# Altium integrated library Renesas Microcontroller R8C.IntLib: 628 symbols (part 21 of 33)
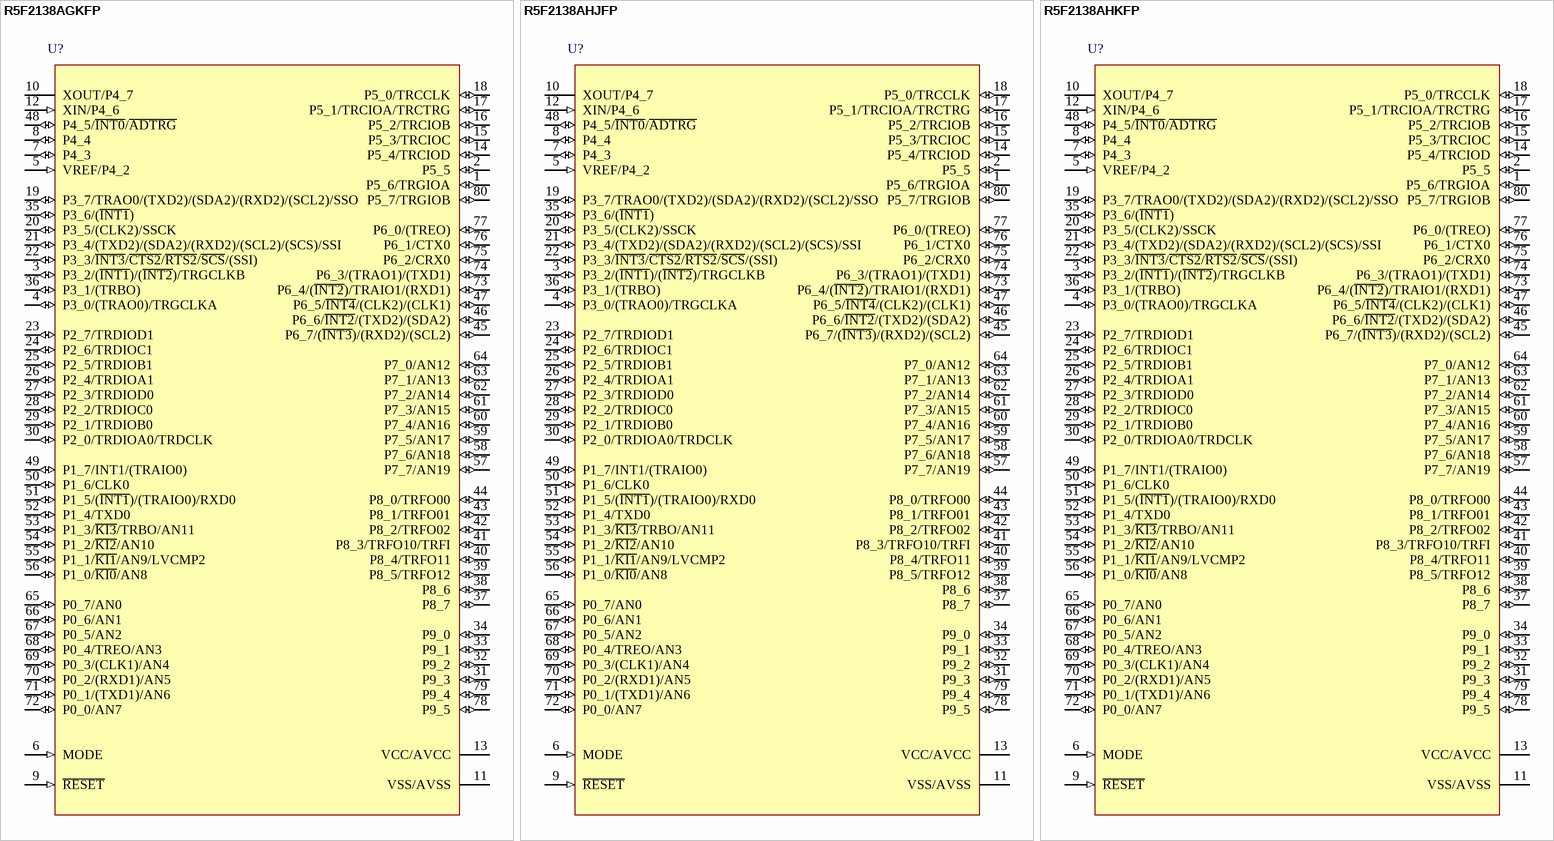
[diagram p136: symbols R5F2138AGKFP to R5F2138AHKFP]

## R5F2138AGKFP
designator U?
R8C/38G Group Single Chip 16-Bit CMOS MCU, 96K ROM + 1K x4 Data Flash, 8K RAM, K Version; Published: 30-Oct-2009; DatasheetVersion: Rev.0.10, Apr-2008; PackageVersion: Sep-2005; PackageReference: PLQP0080KB-A; Publisher: Altium Limited; PackageDescription: 80-Pin Plastic Low Profile QFP, 12 x 12 x 1.4 mm Body, 0.5 mm Pitch; Code_JEITA: P-LQFP80-12x12-0.50; Code_IPC: SQFP50P1400X1400-80; ComponentLink1Description: Manufacturer Link; ComponentLink1URL: http://sg.renesas.com/fmwk.jsp?cnt=r8c_family_landing.jsp&fp=/products/mpumcu/r8c_family/; ComponentLink2Description: Datasheet; ComponentLink2URL: http://documentation.renesas.com/eng/products/mpumcu/rej03b0248_r8c38ess.pdf; ComponentLink3Description: Packaging Specification; ComponentLink3URL: http://sg.renesas.com/media/products/common_info/package/pdf/ic/code/plqp0080kb_a.pdf
footprint PLQP0080KB-A_N (Shrink QFP, 80-Leads, Body 12x12mm, Pitch 0.5mm, IPC Medium Density)
footprint PLQP0080KB-A_L (Shrink QFP, 80-Leads, Body 12x12mm, Pitch 0.5mm, IPC High Density)
footprint PLQP0080KB-A_M (Shrink QFP, 80-Leads, Body 12x12mm, Pitch 0.5mm, IPC Low Density)
pins: 1 P5_6/TRGIOA (io), 2 P5_5 (io), 3 P3_2/(~{INT1})/(~{INT2})/TRGCLKB (io), 4 P3_0/(TRAO0)/TRGCLKA (io), 5 VREF/P4_2 (in), 6 MODE (in), 7 P4_3 (io), 8 P4_4 (io), 9 ~{RESET} (in), 10 XOUT/P4_7, 11 VSS/AVSS (power), 12 XIN/P4_6 (in), 13 VCC/AVCC (power), 14 P5_4/TRCIOD (io), 15 P5_3/TRCIOC (io), 16 P5_2/TRCIOB (io), 17 P5_1/TRCIOA/TRCTRG (io), 18 P5_0/TRCCLK (io), 19 P3_7/TRAO0/(TXD2)/(SDA2)/(RXD2)/(SCL2)/SSO (io), 20 P3_5/(CLK2)/SSCK (io), 21 P3_4/(TXD2)/(SDA2)/(RXD2)/(SCL2)/(SCS)/SSI (io), 22 P3_3/~{INT3}/~{CTS2}/~{RTS2}/~{SCS}/(SSI) (io), 23 P2_7/TRDIOD1 (io), 24 P2_6/TRDIOC1 (io), 25 P2_5/TRDIOB1 (io), 26 P2_4/TRDIOA1 (io), 27 P2_3/TRDIOD0 (io), 28 P2_2/TRDIOC0 (io), 29 P2_1/TRDIOB0 (io), 30 P2_0/TRDIOA0/TRDCLK (io), 31 P9_3 (io), 32 P9_2 (io), 33 P9_1 (io), 34 P9_0 (io), 35 P3_6/(~{INT1}) (io), 36 P3_1/(TRBO) (io), 37 P8_7 (io), 38 P8_6 (io), 39 P8_5/TRFO12 (io), 40 P8_4/TRFO11 (io), 41 P8_3/TRFO10/TRFI (io), 42 P8_2/TRFO02 (io), 43 P8_1/TRFO01 (io), 44 P8_0/TRFO00 (io), 45 P6_7/(~{INT3})/(RXD2)/(SCL2) (io), 46 P6_6/~{INT2}/(TXD2)/(SDA2) (io), 47 P6_5/~{INT4}/(CLK2)/(CLK1) (io), 48 P4_5/~{INT0}/~{ADTRG} (io), 49 P1_7/INT1/(TRAIO0) (io), 50 P1_6/CLK0 (io), 51 P1_5/(~{INT1})/(TRAIO0)/RXD0 (io), 52 P1_4/TXD0 (io), 53 P1_3/~{KI3}/TRBO/AN11 (io), 54 P1_2/~{KI2}/AN10 (io), 55 P1_1/~{KI1}/AN9/LVCMP2 (io), 56 P1_0/~{KI0}/AN8 (io), 57 P7_7/AN19 (io), 58 P7_6/AN18 (io), 59 P7_5/AN17 (io), 60 P7_4/AN16 (io), 61 P7_3/AN15 (io), 62 P7_2/AN14 (io), 63 P7_1/AN13 (io), 64 P7_0/AN12 (io), 65 P0_7/AN0 (io), 66 P0_6/AN1 (io), 67 P0_5/AN2 (io), 68 P0_4/TREO/AN3 (io), 69 P0_3/(CLK1)/AN4 (io), 70 P0_2/(RXD1)/AN5 (io), 71 P0_1/(TXD1)/AN6 (io), 72 P0_0/AN7 (io), 73 P6_4/(~{INT2})/TRAIO1/(RXD1) (io), 74 P6_3/(TRAO1)/(TXD1) (io), 75 P6_2/CRX0 (io), 76 P6_1/CTX0 (io), 77 P6_0/(TREO) (io), 78 P9_5 (io), 79 P9_4 (io), 80 P5_7/TRGIOB (io)

## R5F2138AHJFP
designator U?
R8C/38H Group Single Chip 16-Bit CMOS MCU, 96K ROM, 8K RAM, J Version; Published: 30-Oct-2009; DatasheetVersion: Rev.0.10, Apr-2008; PackageVersion: Sep-2005; PackageReference: PLQP0080KB-A; Publisher: Altium Limited; PackageDescription: 80-Pin Plastic Low Profile QFP, 12 x 12 x 1.4 mm Body, 0.5 mm Pitch; Code_JEITA: P-LQFP80-12x12-0.50; Code_IPC: SQFP50P1400X1400-80; ComponentLink1Description: Manufacturer Link; ComponentLink1URL: http://sg.renesas.com/fmwk.jsp?cnt=r8c_family_landing.jsp&fp=/products/mpumcu/r8c_family/; ComponentLink2Description: Datasheet; ComponentLink2URL: http://documentation.renesas.com/eng/products/mpumcu/rej03b0248_r8c38ess.pdf; ComponentLink3Description: Packaging Specification; ComponentLink3URL: http://sg.renesas.com/media/products/common_info/package/pdf/ic/code/plqp0080kb_a.pdf
footprint PLQP0080KB-A_N (Shrink QFP, 80-Leads, Body 12x12mm, Pitch 0.5mm, IPC Medium Density)
footprint PLQP0080KB-A_L (Shrink QFP, 80-Leads, Body 12x12mm, Pitch 0.5mm, IPC High Density)
footprint PLQP0080KB-A_M (Shrink QFP, 80-Leads, Body 12x12mm, Pitch 0.5mm, IPC Low Density)
pins: 1 P5_6/TRGIOA (io), 2 P5_5 (io), 3 P3_2/(~{INT1})/(~{INT2})/TRGCLKB (io), 4 P3_0/(TRAO0)/TRGCLKA (io), 5 VREF/P4_2 (in), 6 MODE (in), 7 P4_3 (io), 8 P4_4 (io), 9 ~{RESET} (in), 10 XOUT/P4_7, 11 VSS/AVSS (power), 12 XIN/P4_6 (in), 13 VCC/AVCC (power), 14 P5_4/TRCIOD (io), 15 P5_3/TRCIOC (io), 16 P5_2/TRCIOB (io), 17 P5_1/TRCIOA/TRCTRG (io), 18 P5_0/TRCCLK (io), 19 P3_7/TRAO0/(TXD2)/(SDA2)/(RXD2)/(SCL2)/SSO (io), 20 P3_5/(CLK2)/SSCK (io), 21 P3_4/(TXD2)/(SDA2)/(RXD2)/(SCL2)/(SCS)/SSI (io), 22 P3_3/~{INT3}/~{CTS2}/~{RTS2}/~{SCS}/(SSI) (io), 23 P2_7/TRDIOD1 (io), 24 P2_6/TRDIOC1 (io), 25 P2_5/TRDIOB1 (io), 26 P2_4/TRDIOA1 (io), 27 P2_3/TRDIOD0 (io), 28 P2_2/TRDIOC0 (io), 29 P2_1/TRDIOB0 (io), 30 P2_0/TRDIOA0/TRDCLK (io), 31 P9_3 (io), 32 P9_2 (io), 33 P9_1 (io), 34 P9_0 (io), 35 P3_6/(~{INT1}) (io), 36 P3_1/(TRBO) (io), 37 P8_7 (io), 38 P8_6 (io), 39 P8_5/TRFO12 (io), 40 P8_4/TRFO11 (io), 41 P8_3/TRFO10/TRFI (io), 42 P8_2/TRFO02 (io), 43 P8_1/TRFO01 (io), 44 P8_0/TRFO00 (io), 45 P6_7/(~{INT3})/(RXD2)/(SCL2) (io), 46 P6_6/~{INT2}/(TXD2)/(SDA2) (io), 47 P6_5/~{INT4}/(CLK2)/(CLK1) (io), 48 P4_5/~{INT0}/~{ADTRG} (io), 49 P1_7/INT1/(TRAIO0) (io), 50 P1_6/CLK0 (io), 51 P1_5/(~{INT1})/(TRAIO0)/RXD0 (io), 52 P1_4/TXD0 (io), 53 P1_3/~{KI3}/TRBO/AN11 (io), 54 P1_2/~{KI2}/AN10 (io), 55 P1_1/~{KI1}/AN9/LVCMP2 (io), 56 P1_0/~{KI0}/AN8 (io), 57 P7_7/AN19 (io), 58 P7_6/AN18 (io), 59 P7_5/AN17 (io), 60 P7_4/AN16 (io), 61 P7_3/AN15 (io), 62 P7_2/AN14 (io), 63 P7_1/AN13 (io), 64 P7_0/AN12 (io), 65 P0_7/AN0 (io), 66 P0_6/AN1 (io), 67 P0_5/AN2 (io), 68 P0_4/TREO/AN3 (io), 69 P0_3/(CLK1)/AN4 (io), 70 P0_2/(RXD1)/AN5 (io), 71 P0_1/(TXD1)/AN6 (io), 72 P0_0/AN7 (io), 73 P6_4/(~{INT2})/TRAIO1/(RXD1) (io), 74 P6_3/(TRAO1)/(TXD1) (io), 75 P6_2/CRX0 (io), 76 P6_1/CTX0 (io), 77 P6_0/(TREO) (io), 78 P9_5 (io), 79 P9_4 (io), 80 P5_7/TRGIOB (io)

## R5F2138AHKFP
designator U?
R8C/38H Group Single Chip 16-Bit CMOS MCU, 96K ROM, 8K RAM, K Version; Published: 30-Oct-2009; DatasheetVersion: Rev.0.10, Apr-2008; PackageVersion: Sep-2005; PackageReference: PLQP0080KB-A; Publisher: Altium Limited; PackageDescription: 80-Pin Plastic Low Profile QFP, 12 x 12 x 1.4 mm Body, 0.5 mm Pitch; Code_JEITA: P-LQFP80-12x12-0.50; Code_IPC: SQFP50P1400X1400-80; ComponentLink1Description: Manufacturer Link; ComponentLink1URL: http://sg.renesas.com/fmwk.jsp?cnt=r8c_family_landing.jsp&fp=/products/mpumcu/r8c_family/; ComponentLink2Description: Datasheet; ComponentLink2URL: http://documentation.renesas.com/eng/products/mpumcu/rej03b0248_r8c38ess.pdf; ComponentLink3Description: Packaging Specification; ComponentLink3URL: http://sg.renesas.com/media/products/common_info/package/pdf/ic/code/plqp0080kb_a.pdf
footprint PLQP0080KB-A_N (Shrink QFP, 80-Leads, Body 12x12mm, Pitch 0.5mm, IPC Medium Density)
footprint PLQP0080KB-A_L (Shrink QFP, 80-Leads, Body 12x12mm, Pitch 0.5mm, IPC High Density)
footprint PLQP0080KB-A_M (Shrink QFP, 80-Leads, Body 12x12mm, Pitch 0.5mm, IPC Low Density)
pins: 1 P5_6/TRGIOA (io), 2 P5_5 (io), 3 P3_2/(~{INT1})/(~{INT2})/TRGCLKB (io), 4 P3_0/(TRAO0)/TRGCLKA (io), 5 VREF/P4_2 (in), 6 MODE (in), 7 P4_3 (io), 8 P4_4 (io), 9 ~{RESET} (in), 10 XOUT/P4_7, 11 VSS/AVSS (power), 12 XIN/P4_6 (in), 13 VCC/AVCC (power), 14 P5_4/TRCIOD (io), 15 P5_3/TRCIOC (io), 16 P5_2/TRCIOB (io), 17 P5_1/TRCIOA/TRCTRG (io), 18 P5_0/TRCCLK (io), 19 P3_7/TRAO0/(TXD2)/(SDA2)/(RXD2)/(SCL2)/SSO (io), 20 P3_5/(CLK2)/SSCK (io), 21 P3_4/(TXD2)/(SDA2)/(RXD2)/(SCL2)/(SCS)/SSI (io), 22 P3_3/~{INT3}/~{CTS2}/~{RTS2}/~{SCS}/(SSI) (io), 23 P2_7/TRDIOD1 (io), 24 P2_6/TRDIOC1 (io), 25 P2_5/TRDIOB1 (io), 26 P2_4/TRDIOA1 (io), 27 P2_3/TRDIOD0 (io), 28 P2_2/TRDIOC0 (io), 29 P2_1/TRDIOB0 (io), 30 P2_0/TRDIOA0/TRDCLK (io), 31 P9_3 (io), 32 P9_2 (io), 33 P9_1 (io), 34 P9_0 (io), 35 P3_6/(~{INT1}) (io), 36 P3_1/(TRBO) (io), 37 P8_7 (io), 38 P8_6 (io), 39 P8_5/TRFO12 (io), 40 P8_4/TRFO11 (io), 41 P8_3/TRFO10/TRFI (io), 42 P8_2/TRFO02 (io), 43 P8_1/TRFO01 (io), 44 P8_0/TRFO00 (io), 45 P6_7/(~{INT3})/(RXD2)/(SCL2) (io), 46 P6_6/~{INT2}/(TXD2)/(SDA2) (io), 47 P6_5/~{INT4}/(CLK2)/(CLK1) (io), 48 P4_5/~{INT0}/~{ADTRG} (io), 49 P1_7/INT1/(TRAIO0) (io), 50 P1_6/CLK0 (io), 51 P1_5/(~{INT1})/(TRAIO0)/RXD0 (io), 52 P1_4/TXD0 (io), 53 P1_3/~{KI3}/TRBO/AN11 (io), 54 P1_2/~{KI2}/AN10 (io), 55 P1_1/~{KI1}/AN9/LVCMP2 (io), 56 P1_0/~{KI0}/AN8 (io), 57 P7_7/AN19 (io), 58 P7_6/AN18 (io), 59 P7_5/AN17 (io), 60 P7_4/AN16 (io), 61 P7_3/AN15 (io), 62 P7_2/AN14 (io), 63 P7_1/AN13 (io), 64 P7_0/AN12 (io), 65 P0_7/AN0 (io), 66 P0_6/AN1 (io), 67 P0_5/AN2 (io), 68 P0_4/TREO/AN3 (io), 69 P0_3/(CLK1)/AN4 (io), 70 P0_2/(RXD1)/AN5 (io), 71 P0_1/(TXD1)/AN6 (io), 72 P0_0/AN7 (io), 73 P6_4/(~{INT2})/TRAIO1/(RXD1) (io), 74 P6_3/(TRAO1)/(TXD1) (io), 75 P6_2/CRX0 (io), 76 P6_1/CTX0 (io), 77 P6_0/(TREO) (io), 78 P9_5 (io), 79 P9_4 (io), 80 P5_7/TRGIOB (io)

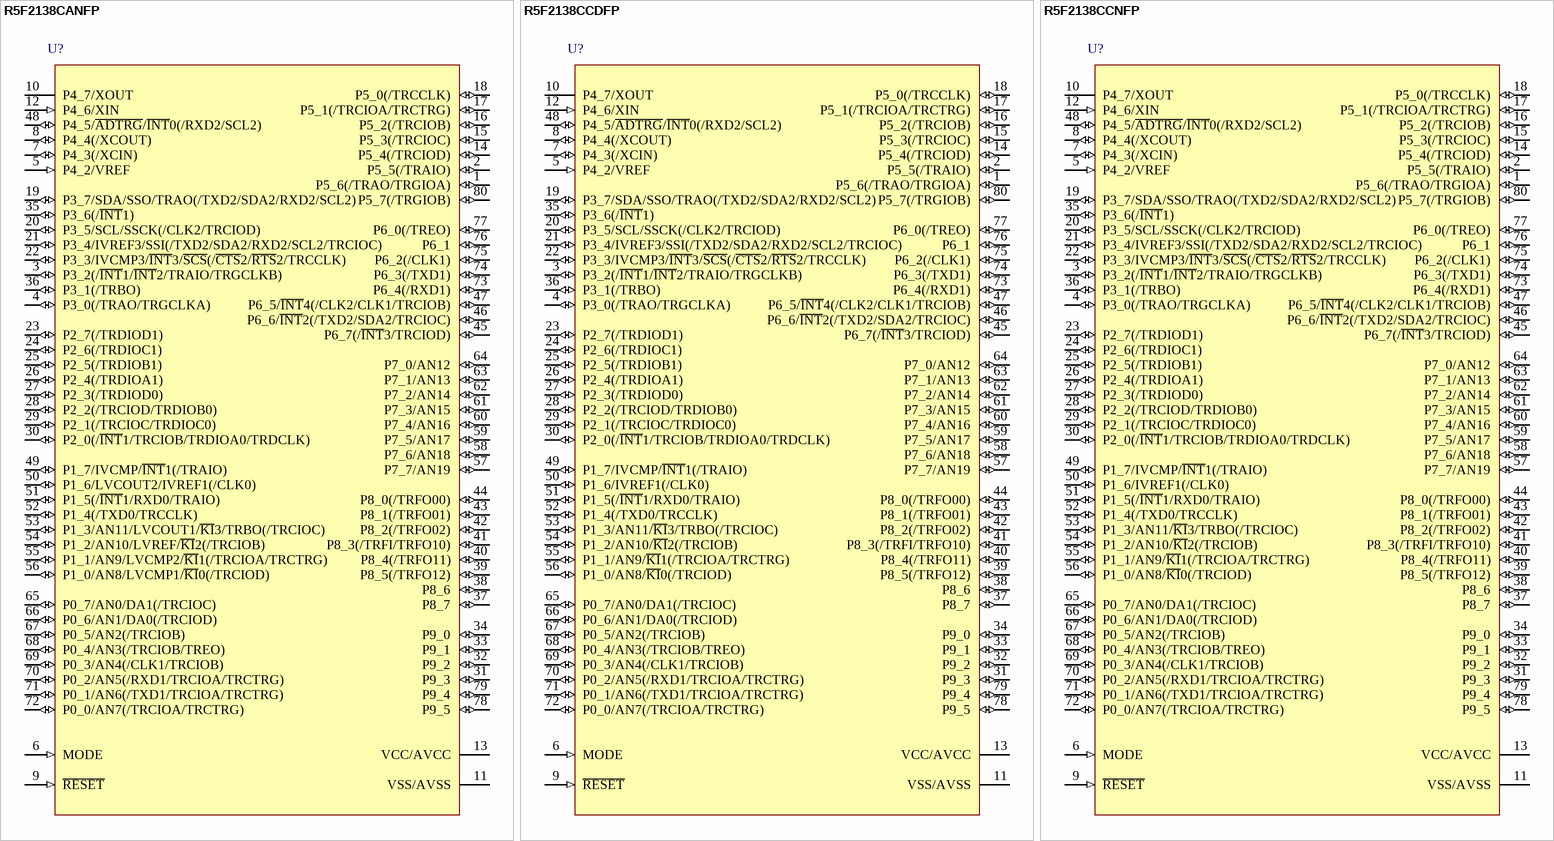
[diagram p73: symbols R5F2138CANFP to R5F2138CCNFP]

## R5F2138CANFP
designator U?
R8C/38A Group Single Chip 16-Bit CMOS MCU, 128K + 4K ROM, 10K RAM, N Version; Published: 17-Feb-2010; DatasheetVersion: Rev.1.10, Sep-2009; PackageVersion: Sep-2005; PackageReference: PLQP0080KB-A; Publisher: Altium Limited; PackageDescription: 80-Pin Plastic Low Profile QFP, 12 x 12 x 1.4 mm Body, 0.5 mm Pitch; Code_JEITA: P-LQFP80-12x12-0.50; Code_IPC: SQFP50P1400X1400-80; ComponentLink1Description: Manufacturer Link; ComponentLink1URL: http://sg.renesas.com/fmwk.jsp?cnt=r8c_family_landing.jsp&fp=/products/mpumcu/r8c_family/; ComponentLink2Description: Datasheet; ComponentLink2URL: http://documentation.renesas.com/eng/products/mpumcu/rej03b0274_r8c38ads.pdf; ComponentLink3Description: Packaging Specification; ComponentLink3URL: http://sg.renesas.com/media/products/common_info/package/pdf/ic/code/plqp0080kb_a.pdf
footprint PLQP0080KB-A_N (Shrink QFP, 80-Leads, Body 12x12mm, Pitch 0.5mm, IPC Medium Density)
footprint PLQP0080KB-A_L (Shrink QFP, 80-Leads, Body 12x12mm, Pitch 0.5mm, IPC High Density)
footprint PLQP0080KB-A_M (Shrink QFP, 80-Leads, Body 12x12mm, Pitch 0.5mm, IPC Low Density)
pins: 1 P5_6(/TRAO/TRGIOA) (io), 2 P5_5(/TRAIO) (io), 3 P3_2(/~{INT}1/~{INT}2/TRAIO/TRGCLKB) (io), 4 P3_0(/TRAO/TRGCLKA) (io), 5 P4_2/VREF (in), 6 MODE (in), 7 P4_3(/XCIN) (io), 8 P4_4(/XCOUT) (io), 9 ~{RESET} (in), 10 P4_7/XOUT, 11 VSS/AVSS (power), 12 P4_6/XIN (in), 13 VCC/AVCC (power), 14 P5_4(/TRCIOD) (io), 15 P5_3(/TRCIOC) (io), 16 P5_2(/TRCIOB) (io), 17 P5_1(/TRCIOA/TRCTRG) (io), 18 P5_0(/TRCCLK) (io), 19 P3_7/SDA/SSO/TRAO(/TXD2/SDA2/RXD2/SCL2) (io), 20 P3_5/SCL/SSCK(/CLK2/TRCIOD) (io), 21 P3_4/IVREF3/SSI(/TXD2/SDA2/RXD2/SCL2/TRCIOC) (io), 22 P3_3/IVCMP3/~{INT}3/~{SCS}(/~{CTS}2/~{RTS}2/TRCCLK) (io), 23 P2_7(/TRDIOD1) (io), 24 P2_6(/TRDIOC1) (io), 25 P2_5(/TRDIOB1) (io), 26 P2_4(/TRDIOA1) (io), 27 P2_3(/TRDIOD0) (io), 28 P2_2(/TRCIOD/TRDIOB0) (io), 29 P2_1(/TRCIOC/TRDIOC0) (io), 30 P2_0(/~{INT}1/TRCIOB/TRDIOA0/TRDCLK) (io), 31 P9_3 (io), 32 P9_2 (io), 33 P9_1 (io), 34 P9_0 (io), 35 P3_6(/~{INT}1) (io), 36 P3_1(/TRBO) (io), 37 P8_7 (io), 38 P8_6 (io), 39 P8_5(/TRFO12) (io), 40 P8_4(/TRFO11) (io), 41 P8_3(/TRFI/TRFO10) (io), 42 P8_2(/TRFO02) (io), 43 P8_1(/TRFO01) (io), 44 P8_0(/TRFO00) (io), 45 P6_7(/~{INT}3/TRCIOD) (io), 46 P6_6/~{INT}2(/TXD2/SDA2/TRCIOC) (io), 47 P6_5/~{INT}4(/CLK2/CLK1/TRCIOB) (io), 48 P4_5/~{ADTRG}/~{INT}0(/RXD2/SCL2) (io), 49 P1_7/IVCMP/~{INT}1(/TRAIO) (io), 50 P1_6/LVCOUT2/IVREF1(/CLK0) (io), 51 P1_5(/~{INT}1/RXD0/TRAIO) (io), 52 P1_4(/TXD0/TRCCLK) (io), 53 P1_3/AN11/LVCOUT1/~{KI}3/TRBO(/TRCIOC) (io), 54 P1_2/AN10/LVREF/~{KI}2(/TRCIOB) (io), 55 P1_1/AN9/LVCMP2/~{KI}1(/TRCIOA/TRCTRG) (io), 56 P1_0/AN8/LVCMP1/~{KI}0(/TRCIOD) (io), 57 P7_7/AN19 (io), 58 P7_6/AN18 (io), 59 P7_5/AN17 (io), 60 P7_4/AN16 (io), 61 P7_3/AN15 (io), 62 P7_2/AN14 (io), 63 P7_1/AN13 (io), 64 P7_0/AN12 (io), 65 P0_7/AN0/DA1(/TRCIOC) (io), 66 P0_6/AN1/DA0(/TRCIOD) (io), 67 P0_5/AN2(/TRCIOB) (io), 68 P0_4/AN3(/TRCIOB/TREO) (io), 69 P0_3/AN4(/CLK1/TRCIOB) (io), 70 P0_2/AN5(/RXD1/TRCIOA/TRCTRG) (io), 71 P0_1/AN6(/TXD1/TRCIOA/TRCTRG) (io), 72 P0_0/AN7(/TRCIOA/TRCTRG) (io), 73 P6_4(/RXD1) (io), 74 P6_3(/TXD1) (io), 75 P6_2(/CLK1) (io), 76 P6_1 (io), 77 P6_0(/TREO) (io), 78 P9_5 (io), 79 P9_4 (io), 80 P5_7(/TRGIOB) (io)

## R5F2138CCDFP
designator U?
R8C/38C Group Single Chip 16-Bit CMOS MCU, 128K + 4K ROM, 10K RAM, D Version; Published: 17-Feb-2010; DatasheetVersion: Rev.0.10, Nov-2009; PackageVersion: Sep-2005; PackageReference: PLQP0080KB-A; Publisher: Altium Limited; PackageDescription: 80-Pin Plastic Low Profile QFP, 12 x 12 x 1.4 mm Body, 0.5 mm Pitch; Code_JEITA: P-LQFP80-12x12-0.50; Code_IPC: SQFP50P1400X1400-80; ComponentLink1Description: Manufacturer Link; ComponentLink1URL: http://sg.renesas.com/fmwk.jsp?cnt=r8c_family_landing.jsp&fp=/products/mpumcu/r8c_family/; ComponentLink2Description: Datasheet; ComponentLink2URL: http://documentation.renesas.com/eng/products/mpumcu/rej09b0584_r8c38chm.pdf; ComponentLink3Description: Packaging Specification; ComponentLink3URL: http://sg.renesas.com/media/products/common_info/package/pdf/ic/code/plqp0080kb_a.pdf
footprint PLQP0080KB-A_N (Shrink QFP, 80-Leads, Body 12x12mm, Pitch 0.5mm, IPC Medium Density)
footprint PLQP0080KB-A_L (Shrink QFP, 80-Leads, Body 12x12mm, Pitch 0.5mm, IPC High Density)
footprint PLQP0080KB-A_M (Shrink QFP, 80-Leads, Body 12x12mm, Pitch 0.5mm, IPC Low Density)
pins: 1 P5_6(/TRAO/TRGIOA) (io), 2 P5_5(/TRAIO) (io), 3 P3_2(/~{INT}1/~{INT}2/TRAIO/TRGCLKB) (io), 4 P3_0(/TRAO/TRGCLKA) (io), 5 P4_2/VREF (in), 6 MODE (in), 7 P4_3(/XCIN) (io), 8 P4_4(/XCOUT) (io), 9 ~{RESET} (in), 10 P4_7/XOUT, 11 VSS/AVSS (power), 12 P4_6/XIN (in), 13 VCC/AVCC (power), 14 P5_4(/TRCIOD) (io), 15 P5_3(/TRCIOC) (io), 16 P5_2(/TRCIOB) (io), 17 P5_1(/TRCIOA/TRCTRG) (io), 18 P5_0(/TRCCLK) (io), 19 P3_7/SDA/SSO/TRAO(/TXD2/SDA2/RXD2/SCL2) (io), 20 P3_5/SCL/SSCK(/CLK2/TRCIOD) (io), 21 P3_4/IVREF3/SSI(/TXD2/SDA2/RXD2/SCL2/TRCIOC) (io), 22 P3_3/IVCMP3/~{INT}3/~{SCS}(/~{CTS}2/~{RTS}2/TRCCLK) (io), 23 P2_7(/TRDIOD1) (io), 24 P2_6(/TRDIOC1) (io), 25 P2_5(/TRDIOB1) (io), 26 P2_4(/TRDIOA1) (io), 27 P2_3(/TRDIOD0) (io), 28 P2_2(/TRCIOD/TRDIOB0) (io), 29 P2_1(/TRCIOC/TRDIOC0) (io), 30 P2_0(/~{INT}1/TRCIOB/TRDIOA0/TRDCLK) (io), 31 P9_3 (io), 32 P9_2 (io), 33 P9_1 (io), 34 P9_0 (io), 35 P3_6(/~{INT}1) (io), 36 P3_1(/TRBO) (io), 37 P8_7 (io), 38 P8_6 (io), 39 P8_5(/TRFO12) (io), 40 P8_4(/TRFO11) (io), 41 P8_3(/TRFI/TRFO10) (io), 42 P8_2(/TRFO02) (io), 43 P8_1(/TRFO01) (io), 44 P8_0(/TRFO00) (io), 45 P6_7(/~{INT}3/TRCIOD) (io), 46 P6_6/~{INT}2(/TXD2/SDA2/TRCIOC) (io), 47 P6_5/~{INT}4(/CLK2/CLK1/TRCIOB) (io), 48 P4_5/~{ADTRG}/~{INT}0(/RXD2/SCL2) (io), 49 P1_7/IVCMP/~{INT}1(/TRAIO) (io), 50 P1_6/IVREF1(/CLK0) (io), 51 P1_5(/~{INT}1/RXD0/TRAIO) (io), 52 P1_4(/TXD0/TRCCLK) (io), 53 P1_3/AN11/~{KI}3/TRBO(/TRCIOC) (io), 54 P1_2/AN10/~{KI}2(/TRCIOB) (io), 55 P1_1/AN9/~{KI}1(/TRCIOA/TRCTRG) (io), 56 P1_0/AN8/~{KI}0(/TRCIOD) (io), 57 P7_7/AN19 (io), 58 P7_6/AN18 (io), 59 P7_5/AN17 (io), 60 P7_4/AN16 (io), 61 P7_3/AN15 (io), 62 P7_2/AN14 (io), 63 P7_1/AN13 (io), 64 P7_0/AN12 (io), 65 P0_7/AN0/DA1(/TRCIOC) (io), 66 P0_6/AN1/DA0(/TRCIOD) (io), 67 P0_5/AN2(/TRCIOB) (io), 68 P0_4/AN3(/TRCIOB/TREO) (io), 69 P0_3/AN4(/CLK1/TRCIOB) (io), 70 P0_2/AN5(/RXD1/TRCIOA/TRCTRG) (io), 71 P0_1/AN6(/TXD1/TRCIOA/TRCTRG) (io), 72 P0_0/AN7(/TRCIOA/TRCTRG) (io), 73 P6_4(/RXD1) (io), 74 P6_3(/TXD1) (io), 75 P6_2(/CLK1) (io), 76 P6_1 (io), 77 P6_0(/TREO) (io), 78 P9_5 (io), 79 P9_4 (io), 80 P5_7(/TRGIOB) (io)

## R5F2138CCNFP
designator U?
R8C/38C Group Single Chip 16-Bit CMOS MCU, 128K + 4K ROM, 10K RAM, N Version; Published: 17-Feb-2010; DatasheetVersion: Rev.0.10, Nov-2009; PackageVersion: Sep-2005; PackageReference: PLQP0080KB-A; Publisher: Altium Limited; PackageDescription: 80-Pin Plastic Low Profile QFP, 12 x 12 x 1.4 mm Body, 0.5 mm Pitch; Code_JEITA: P-LQFP80-12x12-0.50; Code_IPC: SQFP50P1400X1400-80; ComponentLink1Description: Manufacturer Link; ComponentLink1URL: http://sg.renesas.com/fmwk.jsp?cnt=r8c_family_landing.jsp&fp=/products/mpumcu/r8c_family/; ComponentLink2Description: Datasheet; ComponentLink2URL: http://documentation.renesas.com/eng/products/mpumcu/rej09b0584_r8c38chm.pdf; ComponentLink3Description: Packaging Specification; ComponentLink3URL: http://sg.renesas.com/media/products/common_info/package/pdf/ic/code/plqp0080kb_a.pdf
footprint PLQP0080KB-A_N (Shrink QFP, 80-Leads, Body 12x12mm, Pitch 0.5mm, IPC Medium Density)
footprint PLQP0080KB-A_L (Shrink QFP, 80-Leads, Body 12x12mm, Pitch 0.5mm, IPC High Density)
footprint PLQP0080KB-A_M (Shrink QFP, 80-Leads, Body 12x12mm, Pitch 0.5mm, IPC Low Density)
pins: 1 P5_6(/TRAO/TRGIOA) (io), 2 P5_5(/TRAIO) (io), 3 P3_2(/~{INT}1/~{INT}2/TRAIO/TRGCLKB) (io), 4 P3_0(/TRAO/TRGCLKA) (io), 5 P4_2/VREF (in), 6 MODE (in), 7 P4_3(/XCIN) (io), 8 P4_4(/XCOUT) (io), 9 ~{RESET} (in), 10 P4_7/XOUT, 11 VSS/AVSS (power), 12 P4_6/XIN (in), 13 VCC/AVCC (power), 14 P5_4(/TRCIOD) (io), 15 P5_3(/TRCIOC) (io), 16 P5_2(/TRCIOB) (io), 17 P5_1(/TRCIOA/TRCTRG) (io), 18 P5_0(/TRCCLK) (io), 19 P3_7/SDA/SSO/TRAO(/TXD2/SDA2/RXD2/SCL2) (io), 20 P3_5/SCL/SSCK(/CLK2/TRCIOD) (io), 21 P3_4/IVREF3/SSI(/TXD2/SDA2/RXD2/SCL2/TRCIOC) (io), 22 P3_3/IVCMP3/~{INT}3/~{SCS}(/~{CTS}2/~{RTS}2/TRCCLK) (io), 23 P2_7(/TRDIOD1) (io), 24 P2_6(/TRDIOC1) (io), 25 P2_5(/TRDIOB1) (io), 26 P2_4(/TRDIOA1) (io), 27 P2_3(/TRDIOD0) (io), 28 P2_2(/TRCIOD/TRDIOB0) (io), 29 P2_1(/TRCIOC/TRDIOC0) (io), 30 P2_0(/~{INT}1/TRCIOB/TRDIOA0/TRDCLK) (io), 31 P9_3 (io), 32 P9_2 (io), 33 P9_1 (io), 34 P9_0 (io), 35 P3_6(/~{INT}1) (io), 36 P3_1(/TRBO) (io), 37 P8_7 (io), 38 P8_6 (io), 39 P8_5(/TRFO12) (io), 40 P8_4(/TRFO11) (io), 41 P8_3(/TRFI/TRFO10) (io), 42 P8_2(/TRFO02) (io), 43 P8_1(/TRFO01) (io), 44 P8_0(/TRFO00) (io), 45 P6_7(/~{INT}3/TRCIOD) (io), 46 P6_6/~{INT}2(/TXD2/SDA2/TRCIOC) (io), 47 P6_5/~{INT}4(/CLK2/CLK1/TRCIOB) (io), 48 P4_5/~{ADTRG}/~{INT}0(/RXD2/SCL2) (io), 49 P1_7/IVCMP/~{INT}1(/TRAIO) (io), 50 P1_6/IVREF1(/CLK0) (io), 51 P1_5(/~{INT}1/RXD0/TRAIO) (io), 52 P1_4(/TXD0/TRCCLK) (io), 53 P1_3/AN11/~{KI}3/TRBO(/TRCIOC) (io), 54 P1_2/AN10/~{KI}2(/TRCIOB) (io), 55 P1_1/AN9/~{KI}1(/TRCIOA/TRCTRG) (io), 56 P1_0/AN8/~{KI}0(/TRCIOD) (io), 57 P7_7/AN19 (io), 58 P7_6/AN18 (io), 59 P7_5/AN17 (io), 60 P7_4/AN16 (io), 61 P7_3/AN15 (io), 62 P7_2/AN14 (io), 63 P7_1/AN13 (io), 64 P7_0/AN12 (io), 65 P0_7/AN0/DA1(/TRCIOC) (io), 66 P0_6/AN1/DA0(/TRCIOD) (io), 67 P0_5/AN2(/TRCIOB) (io), 68 P0_4/AN3(/TRCIOB/TREO) (io), 69 P0_3/AN4(/CLK1/TRCIOB) (io), 70 P0_2/AN5(/RXD1/TRCIOA/TRCTRG) (io), 71 P0_1/AN6(/TXD1/TRCIOA/TRCTRG) (io), 72 P0_0/AN7(/TRCIOA/TRCTRG) (io), 73 P6_4(/RXD1) (io), 74 P6_3(/TXD1) (io), 75 P6_2(/CLK1) (io), 76 P6_1 (io), 77 P6_0(/TREO) (io), 78 P9_5 (io), 79 P9_4 (io), 80 P5_7(/TRGIOB) (io)

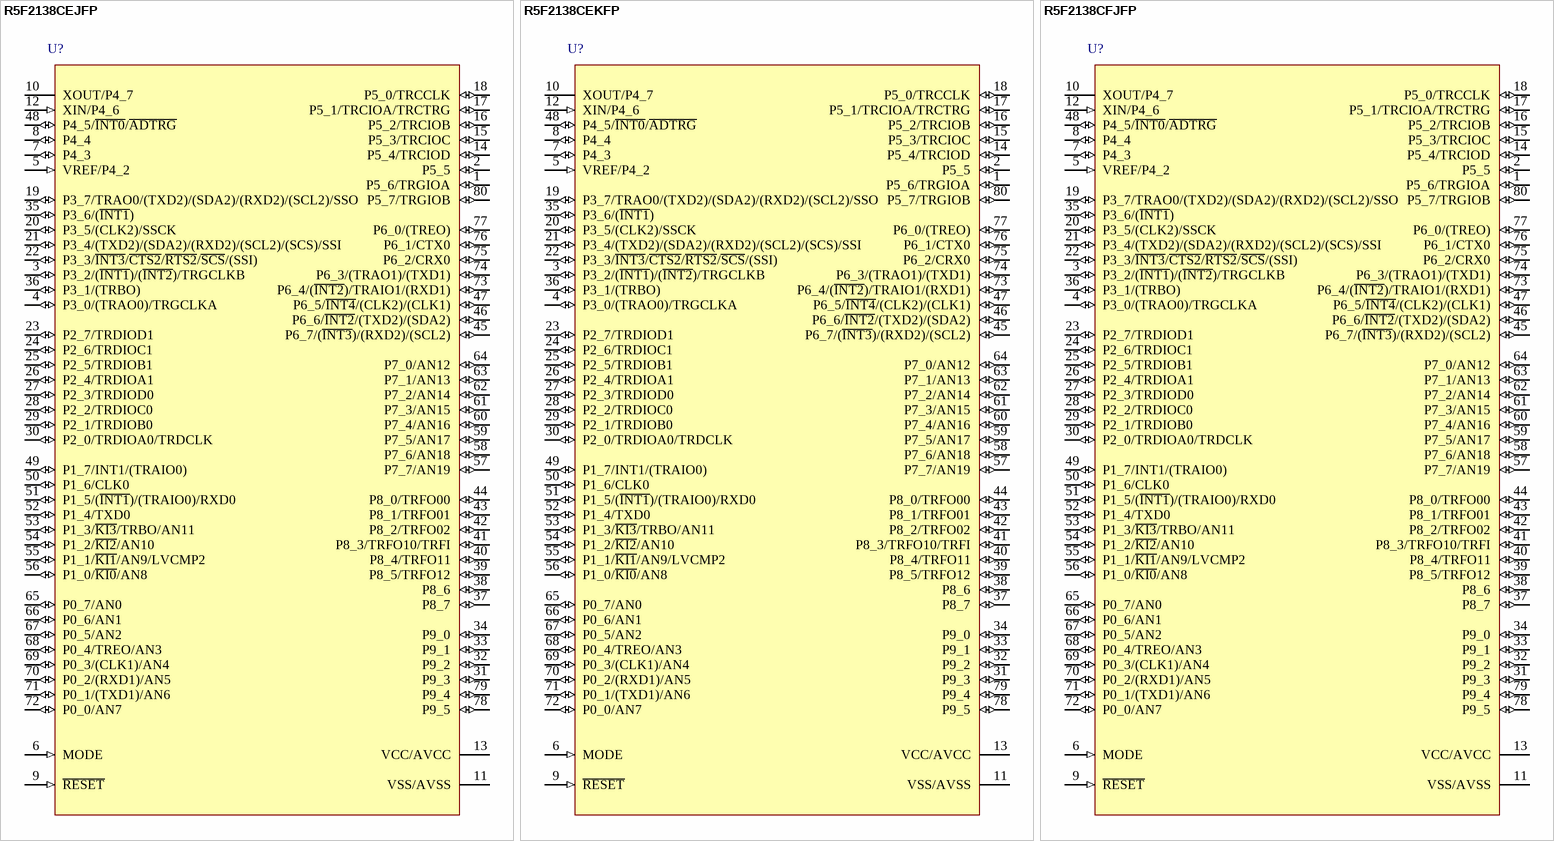
[diagram p74: symbols R5F2138CEJFP to R5F2138CFJFP]

## R5F2138CEJFP
designator U?
R8C/38E Group Single Chip 16-Bit CMOS MCU, 128K ROM + 1K x4 Data Flash, 10K RAM, J Version; Published: 30-Oct-2009; DatasheetVersion: Rev.0.10, Apr-2008; PackageVersion: Sep-2005; PackageReference: PLQP0080KB-A; Publisher: Altium Limited; PackageDescription: 80-Pin Plastic Low Profile QFP, 12 x 12 x 1.4 mm Body, 0.5 mm Pitch; Code_JEITA: P-LQFP80-12x12-0.50; Code_IPC: SQFP50P1400X1400-80; ComponentLink1Description: Manufacturer Link; ComponentLink1URL: http://sg.renesas.com/fmwk.jsp?cnt=r8c_family_landing.jsp&fp=/products/mpumcu/r8c_family/; ComponentLink2Description: Datasheet; ComponentLink2URL: http://documentation.renesas.com/eng/products/mpumcu/rej03b0248_r8c38ess.pdf; ComponentLink3Description: Packaging Specification; ComponentLink3URL: http://sg.renesas.com/media/products/common_info/package/pdf/ic/code/plqp0080kb_a.pdf
footprint PLQP0080KB-A_N (Shrink QFP, 80-Leads, Body 12x12mm, Pitch 0.5mm, IPC Medium Density)
footprint PLQP0080KB-A_L (Shrink QFP, 80-Leads, Body 12x12mm, Pitch 0.5mm, IPC High Density)
footprint PLQP0080KB-A_M (Shrink QFP, 80-Leads, Body 12x12mm, Pitch 0.5mm, IPC Low Density)
pins: 1 P5_6/TRGIOA (io), 2 P5_5 (io), 3 P3_2/(~{INT1})/(~{INT2})/TRGCLKB (io), 4 P3_0/(TRAO0)/TRGCLKA (io), 5 VREF/P4_2 (in), 6 MODE (in), 7 P4_3 (io), 8 P4_4 (io), 9 ~{RESET} (in), 10 XOUT/P4_7, 11 VSS/AVSS (power), 12 XIN/P4_6 (in), 13 VCC/AVCC (power), 14 P5_4/TRCIOD (io), 15 P5_3/TRCIOC (io), 16 P5_2/TRCIOB (io), 17 P5_1/TRCIOA/TRCTRG (io), 18 P5_0/TRCCLK (io), 19 P3_7/TRAO0/(TXD2)/(SDA2)/(RXD2)/(SCL2)/SSO (io), 20 P3_5/(CLK2)/SSCK (io), 21 P3_4/(TXD2)/(SDA2)/(RXD2)/(SCL2)/(SCS)/SSI (io), 22 P3_3/~{INT3}/~{CTS2}/~{RTS2}/~{SCS}/(SSI) (io), 23 P2_7/TRDIOD1 (io), 24 P2_6/TRDIOC1 (io), 25 P2_5/TRDIOB1 (io), 26 P2_4/TRDIOA1 (io), 27 P2_3/TRDIOD0 (io), 28 P2_2/TRDIOC0 (io), 29 P2_1/TRDIOB0 (io), 30 P2_0/TRDIOA0/TRDCLK (io), 31 P9_3 (io), 32 P9_2 (io), 33 P9_1 (io), 34 P9_0 (io), 35 P3_6/(~{INT1}) (io), 36 P3_1/(TRBO) (io), 37 P8_7 (io), 38 P8_6 (io), 39 P8_5/TRFO12 (io), 40 P8_4/TRFO11 (io), 41 P8_3/TRFO10/TRFI (io), 42 P8_2/TRFO02 (io), 43 P8_1/TRFO01 (io), 44 P8_0/TRFO00 (io), 45 P6_7/(~{INT3})/(RXD2)/(SCL2) (io), 46 P6_6/~{INT2}/(TXD2)/(SDA2) (io), 47 P6_5/~{INT4}/(CLK2)/(CLK1) (io), 48 P4_5/~{INT0}/~{ADTRG} (io), 49 P1_7/INT1/(TRAIO0) (io), 50 P1_6/CLK0 (io), 51 P1_5/(~{INT1})/(TRAIO0)/RXD0 (io), 52 P1_4/TXD0 (io), 53 P1_3/~{KI3}/TRBO/AN11 (io), 54 P1_2/~{KI2}/AN10 (io), 55 P1_1/~{KI1}/AN9/LVCMP2 (io), 56 P1_0/~{KI0}/AN8 (io), 57 P7_7/AN19 (io), 58 P7_6/AN18 (io), 59 P7_5/AN17 (io), 60 P7_4/AN16 (io), 61 P7_3/AN15 (io), 62 P7_2/AN14 (io), 63 P7_1/AN13 (io), 64 P7_0/AN12 (io), 65 P0_7/AN0 (io), 66 P0_6/AN1 (io), 67 P0_5/AN2 (io), 68 P0_4/TREO/AN3 (io), 69 P0_3/(CLK1)/AN4 (io), 70 P0_2/(RXD1)/AN5 (io), 71 P0_1/(TXD1)/AN6 (io), 72 P0_0/AN7 (io), 73 P6_4/(~{INT2})/TRAIO1/(RXD1) (io), 74 P6_3/(TRAO1)/(TXD1) (io), 75 P6_2/CRX0 (io), 76 P6_1/CTX0 (io), 77 P6_0/(TREO) (io), 78 P9_5 (io), 79 P9_4 (io), 80 P5_7/TRGIOB (io)

## R5F2138CEKFP
designator U?
R8C/38E Group Single Chip 16-Bit CMOS MCU, 128K ROM + 1K x4 Data Flash, 10K RAM, K Version; Published: 30-Oct-2009; DatasheetVersion: Rev.0.10, Apr-2008; PackageVersion: Sep-2005; PackageReference: PLQP0080KB-A; Publisher: Altium Limited; PackageDescription: 80-Pin Plastic Low Profile QFP, 12 x 12 x 1.4 mm Body, 0.5 mm Pitch; Code_JEITA: P-LQFP80-12x12-0.50; Code_IPC: SQFP50P1400X1400-80; ComponentLink1Description: Manufacturer Link; ComponentLink1URL: http://sg.renesas.com/fmwk.jsp?cnt=r8c_family_landing.jsp&fp=/products/mpumcu/r8c_family/; ComponentLink2Description: Datasheet; ComponentLink2URL: http://documentation.renesas.com/eng/products/mpumcu/rej03b0248_r8c38ess.pdf; ComponentLink3Description: Packaging Specification; ComponentLink3URL: http://sg.renesas.com/media/products/common_info/package/pdf/ic/code/plqp0080kb_a.pdf
footprint PLQP0080KB-A_N (Shrink QFP, 80-Leads, Body 12x12mm, Pitch 0.5mm, IPC Medium Density)
footprint PLQP0080KB-A_L (Shrink QFP, 80-Leads, Body 12x12mm, Pitch 0.5mm, IPC High Density)
footprint PLQP0080KB-A_M (Shrink QFP, 80-Leads, Body 12x12mm, Pitch 0.5mm, IPC Low Density)
pins: 1 P5_6/TRGIOA (io), 2 P5_5 (io), 3 P3_2/(~{INT1})/(~{INT2})/TRGCLKB (io), 4 P3_0/(TRAO0)/TRGCLKA (io), 5 VREF/P4_2 (in), 6 MODE (in), 7 P4_3 (io), 8 P4_4 (io), 9 ~{RESET} (in), 10 XOUT/P4_7, 11 VSS/AVSS (power), 12 XIN/P4_6 (in), 13 VCC/AVCC (power), 14 P5_4/TRCIOD (io), 15 P5_3/TRCIOC (io), 16 P5_2/TRCIOB (io), 17 P5_1/TRCIOA/TRCTRG (io), 18 P5_0/TRCCLK (io), 19 P3_7/TRAO0/(TXD2)/(SDA2)/(RXD2)/(SCL2)/SSO (io), 20 P3_5/(CLK2)/SSCK (io), 21 P3_4/(TXD2)/(SDA2)/(RXD2)/(SCL2)/(SCS)/SSI (io), 22 P3_3/~{INT3}/~{CTS2}/~{RTS2}/~{SCS}/(SSI) (io), 23 P2_7/TRDIOD1 (io), 24 P2_6/TRDIOC1 (io), 25 P2_5/TRDIOB1 (io), 26 P2_4/TRDIOA1 (io), 27 P2_3/TRDIOD0 (io), 28 P2_2/TRDIOC0 (io), 29 P2_1/TRDIOB0 (io), 30 P2_0/TRDIOA0/TRDCLK (io), 31 P9_3 (io), 32 P9_2 (io), 33 P9_1 (io), 34 P9_0 (io), 35 P3_6/(~{INT1}) (io), 36 P3_1/(TRBO) (io), 37 P8_7 (io), 38 P8_6 (io), 39 P8_5/TRFO12 (io), 40 P8_4/TRFO11 (io), 41 P8_3/TRFO10/TRFI (io), 42 P8_2/TRFO02 (io), 43 P8_1/TRFO01 (io), 44 P8_0/TRFO00 (io), 45 P6_7/(~{INT3})/(RXD2)/(SCL2) (io), 46 P6_6/~{INT2}/(TXD2)/(SDA2) (io), 47 P6_5/~{INT4}/(CLK2)/(CLK1) (io), 48 P4_5/~{INT0}/~{ADTRG} (io), 49 P1_7/INT1/(TRAIO0) (io), 50 P1_6/CLK0 (io), 51 P1_5/(~{INT1})/(TRAIO0)/RXD0 (io), 52 P1_4/TXD0 (io), 53 P1_3/~{KI3}/TRBO/AN11 (io), 54 P1_2/~{KI2}/AN10 (io), 55 P1_1/~{KI1}/AN9/LVCMP2 (io), 56 P1_0/~{KI0}/AN8 (io), 57 P7_7/AN19 (io), 58 P7_6/AN18 (io), 59 P7_5/AN17 (io), 60 P7_4/AN16 (io), 61 P7_3/AN15 (io), 62 P7_2/AN14 (io), 63 P7_1/AN13 (io), 64 P7_0/AN12 (io), 65 P0_7/AN0 (io), 66 P0_6/AN1 (io), 67 P0_5/AN2 (io), 68 P0_4/TREO/AN3 (io), 69 P0_3/(CLK1)/AN4 (io), 70 P0_2/(RXD1)/AN5 (io), 71 P0_1/(TXD1)/AN6 (io), 72 P0_0/AN7 (io), 73 P6_4/(~{INT2})/TRAIO1/(RXD1) (io), 74 P6_3/(TRAO1)/(TXD1) (io), 75 P6_2/CRX0 (io), 76 P6_1/CTX0 (io), 77 P6_0/(TREO) (io), 78 P9_5 (io), 79 P9_4 (io), 80 P5_7/TRGIOB (io)

## R5F2138CFJFP
designator U?
R8C/38F Group Single Chip 16-Bit CMOS MCU, 128K ROM, 10K RAM, J Version; Published: 30-Oct-2009; DatasheetVersion: Rev.0.10, Apr-2008; PackageVersion: Sep-2005; PackageReference: PLQP0080KB-A; Publisher: Altium Limited; PackageDescription: 80-Pin Plastic Low Profile QFP, 12 x 12 x 1.4 mm Body, 0.5 mm Pitch; Code_JEITA: P-LQFP80-12x12-0.50; Code_IPC: SQFP50P1400X1400-80; ComponentLink1Description: Manufacturer Link; ComponentLink1URL: http://sg.renesas.com/fmwk.jsp?cnt=r8c_family_landing.jsp&fp=/products/mpumcu/r8c_family/; ComponentLink2Description: Datasheet; ComponentLink2URL: http://documentation.renesas.com/eng/products/mpumcu/rej03b0248_r8c38ess.pdf; ComponentLink3Description: Packaging Specification; ComponentLink3URL: http://sg.renesas.com/media/products/common_info/package/pdf/ic/code/plqp0080kb_a.pdf
footprint PLQP0080KB-A_N (Shrink QFP, 80-Leads, Body 12x12mm, Pitch 0.5mm, IPC Medium Density)
footprint PLQP0080KB-A_L (Shrink QFP, 80-Leads, Body 12x12mm, Pitch 0.5mm, IPC High Density)
footprint PLQP0080KB-A_M (Shrink QFP, 80-Leads, Body 12x12mm, Pitch 0.5mm, IPC Low Density)
pins: 1 P5_6/TRGIOA (io), 2 P5_5 (io), 3 P3_2/(~{INT1})/(~{INT2})/TRGCLKB (io), 4 P3_0/(TRAO0)/TRGCLKA (io), 5 VREF/P4_2 (in), 6 MODE (in), 7 P4_3 (io), 8 P4_4 (io), 9 ~{RESET} (in), 10 XOUT/P4_7, 11 VSS/AVSS (power), 12 XIN/P4_6 (in), 13 VCC/AVCC (power), 14 P5_4/TRCIOD (io), 15 P5_3/TRCIOC (io), 16 P5_2/TRCIOB (io), 17 P5_1/TRCIOA/TRCTRG (io), 18 P5_0/TRCCLK (io), 19 P3_7/TRAO0/(TXD2)/(SDA2)/(RXD2)/(SCL2)/SSO (io), 20 P3_5/(CLK2)/SSCK (io), 21 P3_4/(TXD2)/(SDA2)/(RXD2)/(SCL2)/(SCS)/SSI (io), 22 P3_3/~{INT3}/~{CTS2}/~{RTS2}/~{SCS}/(SSI) (io), 23 P2_7/TRDIOD1 (io), 24 P2_6/TRDIOC1 (io), 25 P2_5/TRDIOB1 (io), 26 P2_4/TRDIOA1 (io), 27 P2_3/TRDIOD0 (io), 28 P2_2/TRDIOC0 (io), 29 P2_1/TRDIOB0 (io), 30 P2_0/TRDIOA0/TRDCLK (io), 31 P9_3 (io), 32 P9_2 (io), 33 P9_1 (io), 34 P9_0 (io), 35 P3_6/(~{INT1}) (io), 36 P3_1/(TRBO) (io), 37 P8_7 (io), 38 P8_6 (io), 39 P8_5/TRFO12 (io), 40 P8_4/TRFO11 (io), 41 P8_3/TRFO10/TRFI (io), 42 P8_2/TRFO02 (io), 43 P8_1/TRFO01 (io), 44 P8_0/TRFO00 (io), 45 P6_7/(~{INT3})/(RXD2)/(SCL2) (io), 46 P6_6/~{INT2}/(TXD2)/(SDA2) (io), 47 P6_5/~{INT4}/(CLK2)/(CLK1) (io), 48 P4_5/~{INT0}/~{ADTRG} (io), 49 P1_7/INT1/(TRAIO0) (io), 50 P1_6/CLK0 (io), 51 P1_5/(~{INT1})/(TRAIO0)/RXD0 (io), 52 P1_4/TXD0 (io), 53 P1_3/~{KI3}/TRBO/AN11 (io), 54 P1_2/~{KI2}/AN10 (io), 55 P1_1/~{KI1}/AN9/LVCMP2 (io), 56 P1_0/~{KI0}/AN8 (io), 57 P7_7/AN19 (io), 58 P7_6/AN18 (io), 59 P7_5/AN17 (io), 60 P7_4/AN16 (io), 61 P7_3/AN15 (io), 62 P7_2/AN14 (io), 63 P7_1/AN13 (io), 64 P7_0/AN12 (io), 65 P0_7/AN0 (io), 66 P0_6/AN1 (io), 67 P0_5/AN2 (io), 68 P0_4/TREO/AN3 (io), 69 P0_3/(CLK1)/AN4 (io), 70 P0_2/(RXD1)/AN5 (io), 71 P0_1/(TXD1)/AN6 (io), 72 P0_0/AN7 (io), 73 P6_4/(~{INT2})/TRAIO1/(RXD1) (io), 74 P6_3/(TRAO1)/(TXD1) (io), 75 P6_2/CRX0 (io), 76 P6_1/CTX0 (io), 77 P6_0/(TREO) (io), 78 P9_5 (io), 79 P9_4 (io), 80 P5_7/TRGIOB (io)

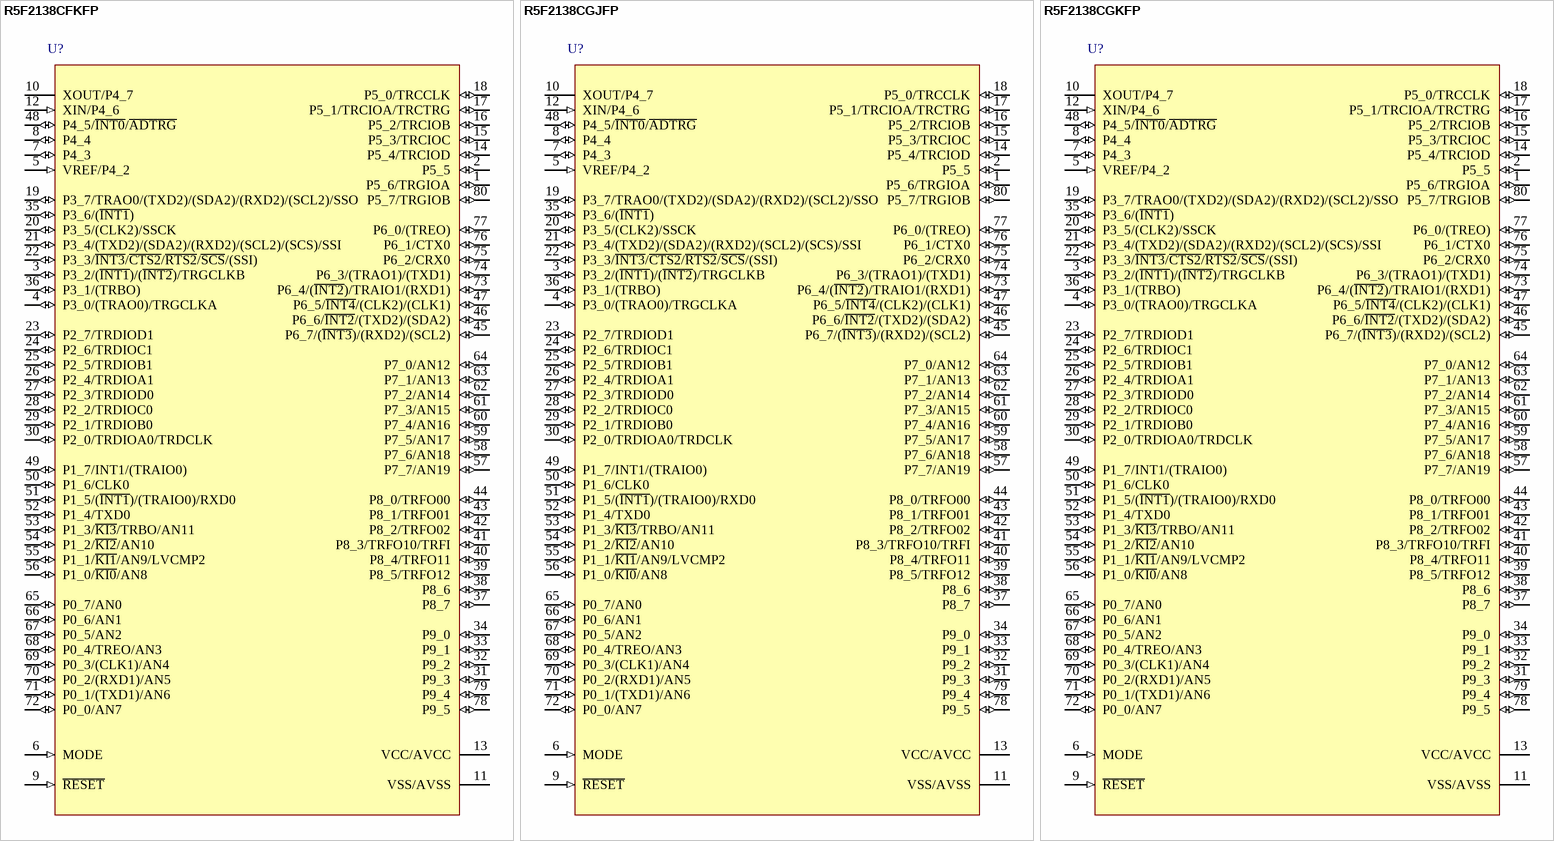
[diagram p75: symbols R5F2138CFKFP to R5F2138CGKFP]

## R5F2138CFKFP
designator U?
R8C/38F Group Single Chip 16-Bit CMOS MCU, 128K ROM, 10K RAM, K Version; Published: 30-Oct-2009; DatasheetVersion: Rev.0.10, Apr-2008; PackageVersion: Sep-2005; PackageReference: PLQP0080KB-A; Publisher: Altium Limited; PackageDescription: 80-Pin Plastic Low Profile QFP, 12 x 12 x 1.4 mm Body, 0.5 mm Pitch; Code_JEITA: P-LQFP80-12x12-0.50; Code_IPC: SQFP50P1400X1400-80; ComponentLink1Description: Manufacturer Link; ComponentLink1URL: http://sg.renesas.com/fmwk.jsp?cnt=r8c_family_landing.jsp&fp=/products/mpumcu/r8c_family/; ComponentLink2Description: Datasheet; ComponentLink2URL: http://documentation.renesas.com/eng/products/mpumcu/rej03b0248_r8c38ess.pdf; ComponentLink3Description: Packaging Specification; ComponentLink3URL: http://sg.renesas.com/media/products/common_info/package/pdf/ic/code/plqp0080kb_a.pdf
footprint PLQP0080KB-A_N (Shrink QFP, 80-Leads, Body 12x12mm, Pitch 0.5mm, IPC Medium Density)
footprint PLQP0080KB-A_L (Shrink QFP, 80-Leads, Body 12x12mm, Pitch 0.5mm, IPC High Density)
footprint PLQP0080KB-A_M (Shrink QFP, 80-Leads, Body 12x12mm, Pitch 0.5mm, IPC Low Density)
pins: 1 P5_6/TRGIOA (io), 2 P5_5 (io), 3 P3_2/(~{INT1})/(~{INT2})/TRGCLKB (io), 4 P3_0/(TRAO0)/TRGCLKA (io), 5 VREF/P4_2 (in), 6 MODE (in), 7 P4_3 (io), 8 P4_4 (io), 9 ~{RESET} (in), 10 XOUT/P4_7, 11 VSS/AVSS (power), 12 XIN/P4_6 (in), 13 VCC/AVCC (power), 14 P5_4/TRCIOD (io), 15 P5_3/TRCIOC (io), 16 P5_2/TRCIOB (io), 17 P5_1/TRCIOA/TRCTRG (io), 18 P5_0/TRCCLK (io), 19 P3_7/TRAO0/(TXD2)/(SDA2)/(RXD2)/(SCL2)/SSO (io), 20 P3_5/(CLK2)/SSCK (io), 21 P3_4/(TXD2)/(SDA2)/(RXD2)/(SCL2)/(SCS)/SSI (io), 22 P3_3/~{INT3}/~{CTS2}/~{RTS2}/~{SCS}/(SSI) (io), 23 P2_7/TRDIOD1 (io), 24 P2_6/TRDIOC1 (io), 25 P2_5/TRDIOB1 (io), 26 P2_4/TRDIOA1 (io), 27 P2_3/TRDIOD0 (io), 28 P2_2/TRDIOC0 (io), 29 P2_1/TRDIOB0 (io), 30 P2_0/TRDIOA0/TRDCLK (io), 31 P9_3 (io), 32 P9_2 (io), 33 P9_1 (io), 34 P9_0 (io), 35 P3_6/(~{INT1}) (io), 36 P3_1/(TRBO) (io), 37 P8_7 (io), 38 P8_6 (io), 39 P8_5/TRFO12 (io), 40 P8_4/TRFO11 (io), 41 P8_3/TRFO10/TRFI (io), 42 P8_2/TRFO02 (io), 43 P8_1/TRFO01 (io), 44 P8_0/TRFO00 (io), 45 P6_7/(~{INT3})/(RXD2)/(SCL2) (io), 46 P6_6/~{INT2}/(TXD2)/(SDA2) (io), 47 P6_5/~{INT4}/(CLK2)/(CLK1) (io), 48 P4_5/~{INT0}/~{ADTRG} (io), 49 P1_7/INT1/(TRAIO0) (io), 50 P1_6/CLK0 (io), 51 P1_5/(~{INT1})/(TRAIO0)/RXD0 (io), 52 P1_4/TXD0 (io), 53 P1_3/~{KI3}/TRBO/AN11 (io), 54 P1_2/~{KI2}/AN10 (io), 55 P1_1/~{KI1}/AN9/LVCMP2 (io), 56 P1_0/~{KI0}/AN8 (io), 57 P7_7/AN19 (io), 58 P7_6/AN18 (io), 59 P7_5/AN17 (io), 60 P7_4/AN16 (io), 61 P7_3/AN15 (io), 62 P7_2/AN14 (io), 63 P7_1/AN13 (io), 64 P7_0/AN12 (io), 65 P0_7/AN0 (io), 66 P0_6/AN1 (io), 67 P0_5/AN2 (io), 68 P0_4/TREO/AN3 (io), 69 P0_3/(CLK1)/AN4 (io), 70 P0_2/(RXD1)/AN5 (io), 71 P0_1/(TXD1)/AN6 (io), 72 P0_0/AN7 (io), 73 P6_4/(~{INT2})/TRAIO1/(RXD1) (io), 74 P6_3/(TRAO1)/(TXD1) (io), 75 P6_2/CRX0 (io), 76 P6_1/CTX0 (io), 77 P6_0/(TREO) (io), 78 P9_5 (io), 79 P9_4 (io), 80 P5_7/TRGIOB (io)

## R5F2138CGJFP
designator U?
R8C/38G Group Single Chip 16-Bit CMOS MCU, 128K ROM + 1K x4 Data Flash, 10K RAM, J Version; Published: 30-Oct-2009; DatasheetVersion: Rev.0.10, Apr-2008; PackageVersion: Sep-2005; PackageReference: PLQP0080KB-A; Publisher: Altium Limited; PackageDescription: 80-Pin Plastic Low Profile QFP, 12 x 12 x 1.4 mm Body, 0.5 mm Pitch; Code_JEITA: P-LQFP80-12x12-0.50; Code_IPC: SQFP50P1400X1400-80; ComponentLink1Description: Manufacturer Link; ComponentLink1URL: http://sg.renesas.com/fmwk.jsp?cnt=r8c_family_landing.jsp&fp=/products/mpumcu/r8c_family/; ComponentLink2Description: Datasheet; ComponentLink2URL: http://documentation.renesas.com/eng/products/mpumcu/rej03b0248_r8c38ess.pdf; ComponentLink3Description: Packaging Specification; ComponentLink3URL: http://sg.renesas.com/media/products/common_info/package/pdf/ic/code/plqp0080kb_a.pdf
footprint PLQP0080KB-A_N (Shrink QFP, 80-Leads, Body 12x12mm, Pitch 0.5mm, IPC Medium Density)
footprint PLQP0080KB-A_L (Shrink QFP, 80-Leads, Body 12x12mm, Pitch 0.5mm, IPC High Density)
footprint PLQP0080KB-A_M (Shrink QFP, 80-Leads, Body 12x12mm, Pitch 0.5mm, IPC Low Density)
pins: 1 P5_6/TRGIOA (io), 2 P5_5 (io), 3 P3_2/(~{INT1})/(~{INT2})/TRGCLKB (io), 4 P3_0/(TRAO0)/TRGCLKA (io), 5 VREF/P4_2 (in), 6 MODE (in), 7 P4_3 (io), 8 P4_4 (io), 9 ~{RESET} (in), 10 XOUT/P4_7, 11 VSS/AVSS (power), 12 XIN/P4_6 (in), 13 VCC/AVCC (power), 14 P5_4/TRCIOD (io), 15 P5_3/TRCIOC (io), 16 P5_2/TRCIOB (io), 17 P5_1/TRCIOA/TRCTRG (io), 18 P5_0/TRCCLK (io), 19 P3_7/TRAO0/(TXD2)/(SDA2)/(RXD2)/(SCL2)/SSO (io), 20 P3_5/(CLK2)/SSCK (io), 21 P3_4/(TXD2)/(SDA2)/(RXD2)/(SCL2)/(SCS)/SSI (io), 22 P3_3/~{INT3}/~{CTS2}/~{RTS2}/~{SCS}/(SSI) (io), 23 P2_7/TRDIOD1 (io), 24 P2_6/TRDIOC1 (io), 25 P2_5/TRDIOB1 (io), 26 P2_4/TRDIOA1 (io), 27 P2_3/TRDIOD0 (io), 28 P2_2/TRDIOC0 (io), 29 P2_1/TRDIOB0 (io), 30 P2_0/TRDIOA0/TRDCLK (io), 31 P9_3 (io), 32 P9_2 (io), 33 P9_1 (io), 34 P9_0 (io), 35 P3_6/(~{INT1}) (io), 36 P3_1/(TRBO) (io), 37 P8_7 (io), 38 P8_6 (io), 39 P8_5/TRFO12 (io), 40 P8_4/TRFO11 (io), 41 P8_3/TRFO10/TRFI (io), 42 P8_2/TRFO02 (io), 43 P8_1/TRFO01 (io), 44 P8_0/TRFO00 (io), 45 P6_7/(~{INT3})/(RXD2)/(SCL2) (io), 46 P6_6/~{INT2}/(TXD2)/(SDA2) (io), 47 P6_5/~{INT4}/(CLK2)/(CLK1) (io), 48 P4_5/~{INT0}/~{ADTRG} (io), 49 P1_7/INT1/(TRAIO0) (io), 50 P1_6/CLK0 (io), 51 P1_5/(~{INT1})/(TRAIO0)/RXD0 (io), 52 P1_4/TXD0 (io), 53 P1_3/~{KI3}/TRBO/AN11 (io), 54 P1_2/~{KI2}/AN10 (io), 55 P1_1/~{KI1}/AN9/LVCMP2 (io), 56 P1_0/~{KI0}/AN8 (io), 57 P7_7/AN19 (io), 58 P7_6/AN18 (io), 59 P7_5/AN17 (io), 60 P7_4/AN16 (io), 61 P7_3/AN15 (io), 62 P7_2/AN14 (io), 63 P7_1/AN13 (io), 64 P7_0/AN12 (io), 65 P0_7/AN0 (io), 66 P0_6/AN1 (io), 67 P0_5/AN2 (io), 68 P0_4/TREO/AN3 (io), 69 P0_3/(CLK1)/AN4 (io), 70 P0_2/(RXD1)/AN5 (io), 71 P0_1/(TXD1)/AN6 (io), 72 P0_0/AN7 (io), 73 P6_4/(~{INT2})/TRAIO1/(RXD1) (io), 74 P6_3/(TRAO1)/(TXD1) (io), 75 P6_2/CRX0 (io), 76 P6_1/CTX0 (io), 77 P6_0/(TREO) (io), 78 P9_5 (io), 79 P9_4 (io), 80 P5_7/TRGIOB (io)

## R5F2138CGKFP
designator U?
R8C/38G Group Single Chip 16-Bit CMOS MCU, 128K ROM + 1K x4 Data Flash, 10K RAM, K Version; Published: 30-Oct-2009; DatasheetVersion: Rev.0.10, Apr-2008; PackageVersion: Sep-2005; PackageReference: PLQP0080KB-A; Publisher: Altium Limited; PackageDescription: 80-Pin Plastic Low Profile QFP, 12 x 12 x 1.4 mm Body, 0.5 mm Pitch; Code_JEITA: P-LQFP80-12x12-0.50; Code_IPC: SQFP50P1400X1400-80; ComponentLink1Description: Manufacturer Link; ComponentLink1URL: http://sg.renesas.com/fmwk.jsp?cnt=r8c_family_landing.jsp&fp=/products/mpumcu/r8c_family/; ComponentLink2Description: Datasheet; ComponentLink2URL: http://documentation.renesas.com/eng/products/mpumcu/rej03b0248_r8c38ess.pdf; ComponentLink3Description: Packaging Specification; ComponentLink3URL: http://sg.renesas.com/media/products/common_info/package/pdf/ic/code/plqp0080kb_a.pdf
footprint PLQP0080KB-A_N (Shrink QFP, 80-Leads, Body 12x12mm, Pitch 0.5mm, IPC Medium Density)
footprint PLQP0080KB-A_L (Shrink QFP, 80-Leads, Body 12x12mm, Pitch 0.5mm, IPC High Density)
footprint PLQP0080KB-A_M (Shrink QFP, 80-Leads, Body 12x12mm, Pitch 0.5mm, IPC Low Density)
pins: 1 P5_6/TRGIOA (io), 2 P5_5 (io), 3 P3_2/(~{INT1})/(~{INT2})/TRGCLKB (io), 4 P3_0/(TRAO0)/TRGCLKA (io), 5 VREF/P4_2 (in), 6 MODE (in), 7 P4_3 (io), 8 P4_4 (io), 9 ~{RESET} (in), 10 XOUT/P4_7, 11 VSS/AVSS (power), 12 XIN/P4_6 (in), 13 VCC/AVCC (power), 14 P5_4/TRCIOD (io), 15 P5_3/TRCIOC (io), 16 P5_2/TRCIOB (io), 17 P5_1/TRCIOA/TRCTRG (io), 18 P5_0/TRCCLK (io), 19 P3_7/TRAO0/(TXD2)/(SDA2)/(RXD2)/(SCL2)/SSO (io), 20 P3_5/(CLK2)/SSCK (io), 21 P3_4/(TXD2)/(SDA2)/(RXD2)/(SCL2)/(SCS)/SSI (io), 22 P3_3/~{INT3}/~{CTS2}/~{RTS2}/~{SCS}/(SSI) (io), 23 P2_7/TRDIOD1 (io), 24 P2_6/TRDIOC1 (io), 25 P2_5/TRDIOB1 (io), 26 P2_4/TRDIOA1 (io), 27 P2_3/TRDIOD0 (io), 28 P2_2/TRDIOC0 (io), 29 P2_1/TRDIOB0 (io), 30 P2_0/TRDIOA0/TRDCLK (io), 31 P9_3 (io), 32 P9_2 (io), 33 P9_1 (io), 34 P9_0 (io), 35 P3_6/(~{INT1}) (io), 36 P3_1/(TRBO) (io), 37 P8_7 (io), 38 P8_6 (io), 39 P8_5/TRFO12 (io), 40 P8_4/TRFO11 (io), 41 P8_3/TRFO10/TRFI (io), 42 P8_2/TRFO02 (io), 43 P8_1/TRFO01 (io), 44 P8_0/TRFO00 (io), 45 P6_7/(~{INT3})/(RXD2)/(SCL2) (io), 46 P6_6/~{INT2}/(TXD2)/(SDA2) (io), 47 P6_5/~{INT4}/(CLK2)/(CLK1) (io), 48 P4_5/~{INT0}/~{ADTRG} (io), 49 P1_7/INT1/(TRAIO0) (io), 50 P1_6/CLK0 (io), 51 P1_5/(~{INT1})/(TRAIO0)/RXD0 (io), 52 P1_4/TXD0 (io), 53 P1_3/~{KI3}/TRBO/AN11 (io), 54 P1_2/~{KI2}/AN10 (io), 55 P1_1/~{KI1}/AN9/LVCMP2 (io), 56 P1_0/~{KI0}/AN8 (io), 57 P7_7/AN19 (io), 58 P7_6/AN18 (io), 59 P7_5/AN17 (io), 60 P7_4/AN16 (io), 61 P7_3/AN15 (io), 62 P7_2/AN14 (io), 63 P7_1/AN13 (io), 64 P7_0/AN12 (io), 65 P0_7/AN0 (io), 66 P0_6/AN1 (io), 67 P0_5/AN2 (io), 68 P0_4/TREO/AN3 (io), 69 P0_3/(CLK1)/AN4 (io), 70 P0_2/(RXD1)/AN5 (io), 71 P0_1/(TXD1)/AN6 (io), 72 P0_0/AN7 (io), 73 P6_4/(~{INT2})/TRAIO1/(RXD1) (io), 74 P6_3/(TRAO1)/(TXD1) (io), 75 P6_2/CRX0 (io), 76 P6_1/CTX0 (io), 77 P6_0/(TREO) (io), 78 P9_5 (io), 79 P9_4 (io), 80 P5_7/TRGIOB (io)

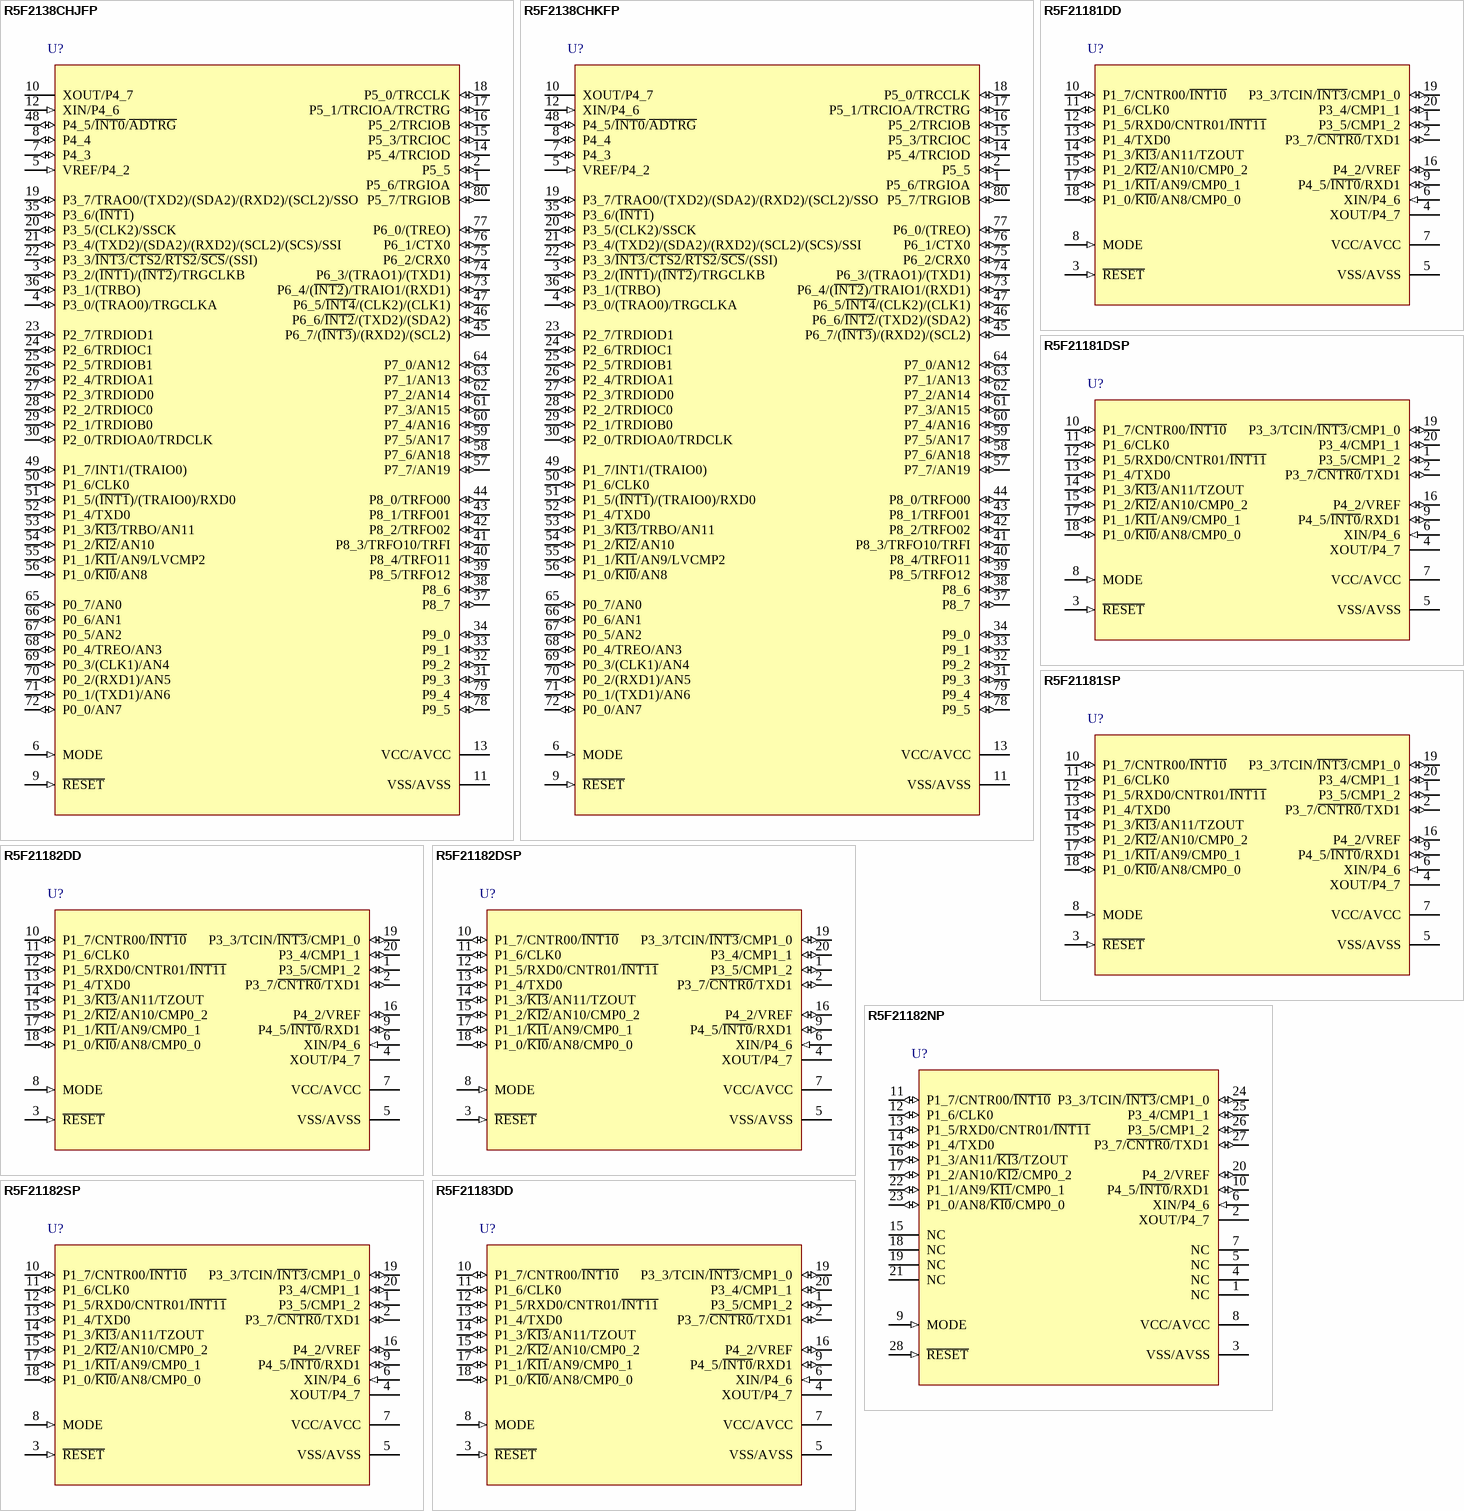
[diagram p76: symbols R5F2138CHJFP to R5F21183DD]

## R5F2138CHJFP
designator U?
R8C/38H Group Single Chip 16-Bit CMOS MCU, 128K ROM, 10K RAM, J Version; Published: 30-Oct-2009; DatasheetVersion: Rev.0.10, Apr-2008; PackageVersion: Sep-2005; PackageReference: PLQP0080KB-A; Publisher: Altium Limited; PackageDescription: 80-Pin Plastic Low Profile QFP, 12 x 12 x 1.4 mm Body, 0.5 mm Pitch; Code_JEITA: P-LQFP80-12x12-0.50; Code_IPC: SQFP50P1400X1400-80; ComponentLink1Description: Manufacturer Link; ComponentLink1URL: http://sg.renesas.com/fmwk.jsp?cnt=r8c_family_landing.jsp&fp=/products/mpumcu/r8c_family/; ComponentLink2Description: Datasheet; ComponentLink2URL: http://documentation.renesas.com/eng/products/mpumcu/rej03b0248_r8c38ess.pdf; ComponentLink3Description: Packaging Specification; ComponentLink3URL: http://sg.renesas.com/media/products/common_info/package/pdf/ic/code/plqp0080kb_a.pdf
footprint PLQP0080KB-A_N (Shrink QFP, 80-Leads, Body 12x12mm, Pitch 0.5mm, IPC Medium Density)
footprint PLQP0080KB-A_L (Shrink QFP, 80-Leads, Body 12x12mm, Pitch 0.5mm, IPC High Density)
footprint PLQP0080KB-A_M (Shrink QFP, 80-Leads, Body 12x12mm, Pitch 0.5mm, IPC Low Density)
pins: 1 P5_6/TRGIOA (io), 2 P5_5 (io), 3 P3_2/(~{INT1})/(~{INT2})/TRGCLKB (io), 4 P3_0/(TRAO0)/TRGCLKA (io), 5 VREF/P4_2 (in), 6 MODE (in), 7 P4_3 (io), 8 P4_4 (io), 9 ~{RESET} (in), 10 XOUT/P4_7, 11 VSS/AVSS (power), 12 XIN/P4_6 (in), 13 VCC/AVCC (power), 14 P5_4/TRCIOD (io), 15 P5_3/TRCIOC (io), 16 P5_2/TRCIOB (io), 17 P5_1/TRCIOA/TRCTRG (io), 18 P5_0/TRCCLK (io), 19 P3_7/TRAO0/(TXD2)/(SDA2)/(RXD2)/(SCL2)/SSO (io), 20 P3_5/(CLK2)/SSCK (io), 21 P3_4/(TXD2)/(SDA2)/(RXD2)/(SCL2)/(SCS)/SSI (io), 22 P3_3/~{INT3}/~{CTS2}/~{RTS2}/~{SCS}/(SSI) (io), 23 P2_7/TRDIOD1 (io), 24 P2_6/TRDIOC1 (io), 25 P2_5/TRDIOB1 (io), 26 P2_4/TRDIOA1 (io), 27 P2_3/TRDIOD0 (io), 28 P2_2/TRDIOC0 (io), 29 P2_1/TRDIOB0 (io), 30 P2_0/TRDIOA0/TRDCLK (io), 31 P9_3 (io), 32 P9_2 (io), 33 P9_1 (io), 34 P9_0 (io), 35 P3_6/(~{INT1}) (io), 36 P3_1/(TRBO) (io), 37 P8_7 (io), 38 P8_6 (io), 39 P8_5/TRFO12 (io), 40 P8_4/TRFO11 (io), 41 P8_3/TRFO10/TRFI (io), 42 P8_2/TRFO02 (io), 43 P8_1/TRFO01 (io), 44 P8_0/TRFO00 (io), 45 P6_7/(~{INT3})/(RXD2)/(SCL2) (io), 46 P6_6/~{INT2}/(TXD2)/(SDA2) (io), 47 P6_5/~{INT4}/(CLK2)/(CLK1) (io), 48 P4_5/~{INT0}/~{ADTRG} (io), 49 P1_7/INT1/(TRAIO0) (io), 50 P1_6/CLK0 (io), 51 P1_5/(~{INT1})/(TRAIO0)/RXD0 (io), 52 P1_4/TXD0 (io), 53 P1_3/~{KI3}/TRBO/AN11 (io), 54 P1_2/~{KI2}/AN10 (io), 55 P1_1/~{KI1}/AN9/LVCMP2 (io), 56 P1_0/~{KI0}/AN8 (io), 57 P7_7/AN19 (io), 58 P7_6/AN18 (io), 59 P7_5/AN17 (io), 60 P7_4/AN16 (io), 61 P7_3/AN15 (io), 62 P7_2/AN14 (io), 63 P7_1/AN13 (io), 64 P7_0/AN12 (io), 65 P0_7/AN0 (io), 66 P0_6/AN1 (io), 67 P0_5/AN2 (io), 68 P0_4/TREO/AN3 (io), 69 P0_3/(CLK1)/AN4 (io), 70 P0_2/(RXD1)/AN5 (io), 71 P0_1/(TXD1)/AN6 (io), 72 P0_0/AN7 (io), 73 P6_4/(~{INT2})/TRAIO1/(RXD1) (io), 74 P6_3/(TRAO1)/(TXD1) (io), 75 P6_2/CRX0 (io), 76 P6_1/CTX0 (io), 77 P6_0/(TREO) (io), 78 P9_5 (io), 79 P9_4 (io), 80 P5_7/TRGIOB (io)

## R5F2138CHKFP
designator U?
R8C/38H Group Single Chip 16-Bit CMOS MCU, 128K ROM, 10K RAM, K Version; Published: 30-Oct-2009; DatasheetVersion: Rev.0.10, Apr-2008; PackageVersion: Sep-2005; PackageReference: PLQP0080KB-A; Publisher: Altium Limited; PackageDescription: 80-Pin Plastic Low Profile QFP, 12 x 12 x 1.4 mm Body, 0.5 mm Pitch; Code_JEITA: P-LQFP80-12x12-0.50; Code_IPC: SQFP50P1400X1400-80; ComponentLink1Description: Manufacturer Link; ComponentLink1URL: http://sg.renesas.com/fmwk.jsp?cnt=r8c_family_landing.jsp&fp=/products/mpumcu/r8c_family/; ComponentLink2Description: Datasheet; ComponentLink2URL: http://documentation.renesas.com/eng/products/mpumcu/rej03b0248_r8c38ess.pdf; ComponentLink3Description: Packaging Specification; ComponentLink3URL: http://sg.renesas.com/media/products/common_info/package/pdf/ic/code/plqp0080kb_a.pdf
footprint PLQP0080KB-A_N (Shrink QFP, 80-Leads, Body 12x12mm, Pitch 0.5mm, IPC Medium Density)
footprint PLQP0080KB-A_L (Shrink QFP, 80-Leads, Body 12x12mm, Pitch 0.5mm, IPC High Density)
footprint PLQP0080KB-A_M (Shrink QFP, 80-Leads, Body 12x12mm, Pitch 0.5mm, IPC Low Density)
pins: 1 P5_6/TRGIOA (io), 2 P5_5 (io), 3 P3_2/(~{INT1})/(~{INT2})/TRGCLKB (io), 4 P3_0/(TRAO0)/TRGCLKA (io), 5 VREF/P4_2 (in), 6 MODE (in), 7 P4_3 (io), 8 P4_4 (io), 9 ~{RESET} (in), 10 XOUT/P4_7, 11 VSS/AVSS (power), 12 XIN/P4_6 (in), 13 VCC/AVCC (power), 14 P5_4/TRCIOD (io), 15 P5_3/TRCIOC (io), 16 P5_2/TRCIOB (io), 17 P5_1/TRCIOA/TRCTRG (io), 18 P5_0/TRCCLK (io), 19 P3_7/TRAO0/(TXD2)/(SDA2)/(RXD2)/(SCL2)/SSO (io), 20 P3_5/(CLK2)/SSCK (io), 21 P3_4/(TXD2)/(SDA2)/(RXD2)/(SCL2)/(SCS)/SSI (io), 22 P3_3/~{INT3}/~{CTS2}/~{RTS2}/~{SCS}/(SSI) (io), 23 P2_7/TRDIOD1 (io), 24 P2_6/TRDIOC1 (io), 25 P2_5/TRDIOB1 (io), 26 P2_4/TRDIOA1 (io), 27 P2_3/TRDIOD0 (io), 28 P2_2/TRDIOC0 (io), 29 P2_1/TRDIOB0 (io), 30 P2_0/TRDIOA0/TRDCLK (io), 31 P9_3 (io), 32 P9_2 (io), 33 P9_1 (io), 34 P9_0 (io), 35 P3_6/(~{INT1}) (io), 36 P3_1/(TRBO) (io), 37 P8_7 (io), 38 P8_6 (io), 39 P8_5/TRFO12 (io), 40 P8_4/TRFO11 (io), 41 P8_3/TRFO10/TRFI (io), 42 P8_2/TRFO02 (io), 43 P8_1/TRFO01 (io), 44 P8_0/TRFO00 (io), 45 P6_7/(~{INT3})/(RXD2)/(SCL2) (io), 46 P6_6/~{INT2}/(TXD2)/(SDA2) (io), 47 P6_5/~{INT4}/(CLK2)/(CLK1) (io), 48 P4_5/~{INT0}/~{ADTRG} (io), 49 P1_7/INT1/(TRAIO0) (io), 50 P1_6/CLK0 (io), 51 P1_5/(~{INT1})/(TRAIO0)/RXD0 (io), 52 P1_4/TXD0 (io), 53 P1_3/~{KI3}/TRBO/AN11 (io), 54 P1_2/~{KI2}/AN10 (io), 55 P1_1/~{KI1}/AN9/LVCMP2 (io), 56 P1_0/~{KI0}/AN8 (io), 57 P7_7/AN19 (io), 58 P7_6/AN18 (io), 59 P7_5/AN17 (io), 60 P7_4/AN16 (io), 61 P7_3/AN15 (io), 62 P7_2/AN14 (io), 63 P7_1/AN13 (io), 64 P7_0/AN12 (io), 65 P0_7/AN0 (io), 66 P0_6/AN1 (io), 67 P0_5/AN2 (io), 68 P0_4/TREO/AN3 (io), 69 P0_3/(CLK1)/AN4 (io), 70 P0_2/(RXD1)/AN5 (io), 71 P0_1/(TXD1)/AN6 (io), 72 P0_0/AN7 (io), 73 P6_4/(~{INT2})/TRAIO1/(RXD1) (io), 74 P6_3/(TRAO1)/(TXD1) (io), 75 P6_2/CRX0 (io), 76 P6_1/CTX0 (io), 77 P6_0/(TREO) (io), 78 P9_5 (io), 79 P9_4 (io), 80 P5_7/TRGIOB (io)

## R5F21181DD
designator U?
R8C/18 Group Single Chip 16-Bit CMOS MCU, 4K ROM, Standard Version; Published: 30-Oct-2009; DatasheetVersion: Rev.1.40, Apr-2006; PackageVersion: Sep-2005; PackageReference: PRDP0020BA-A; Publisher: Altium Limited; PackageDescription: 20-Pin Plastic Shrink DIP, 19 x 6.3 mm Body, 7.62 mm Row Spacing, 1.778 mm Pitch; Code_JEITA: P-SDIP20-6.3x19-1.78; ComponentLink1Description: Manufacturer Link; ComponentLink1URL: http://sg.renesas.com/fmwk.jsp?cnt=r8c_family_landing.jsp&fp=/products/mpumcu/r8c_family/; ComponentLink2Description: Datasheet; ComponentLink2URL: http://documentation.renesas.com/eng/products/mpumcu/rej03b0124_r8c1819ds.pdf; ComponentLink3Description: Packaging Specification; ComponentLink3URL: http://sg.renesas.com/media/products/common_info/package/pdf/ic/code/prdp0020ba_a.pdf
footprint PRDP0020BA-A (DIP, 20-Leads, Row Spacing 7.62mm, Pitch 1.778mm, Body 19x6.3mm)
pins: 1 P3_5/CMP1_2 (io), 2 P3_7/~{CNTR0}/TXD1 (io), 3 ~{RESET} (in), 4 XOUT/P4_7, 5 VSS/AVSS (power), 6 XIN/P4_6 (in), 7 VCC/AVCC (power), 8 MODE (in), 9 P4_5/~{INT0}/RXD1 (io), 10 P1_7/CNTR00/~{INT10} (io), 11 P1_6/CLK0 (io), 12 P1_5/RXD0/CNTR01/~{INT11} (io), 13 P1_4/TXD0 (io), 14 P1_3/~{KI3}/AN11/TZOUT (io), 15 P1_2/~{KI2}/AN10/CMP0_2 (io), 16 P4_2/VREF (io), 17 P1_1/~{KI1}/AN9/CMP0_1 (io), 18 P1_0/~{KI0}/AN8/CMP0_0 (io), 19 P3_3/TCIN/~{INT3}/CMP1_0 (io), 20 P3_4/CMP1_1 (io)

## R5F21181DSP
designator U?
R8C/18 Group Single Chip 16-Bit CMOS MCU, 4K ROM, D Version; Published: 30-Oct-2009; DatasheetVersion: Rev.1.40, Apr-2006; PackageVersion: Sep-2005; PackageReference: PLSP0020JB-A; Publisher: Altium Limited; PackageDescription: 20-Pin Plastic Low Profile Shrink SOP, 6.5 x 4.4 x 1.15 mm Body, 0.65 mm Pitch; Code_JEITA: P-LSSOP20-4.4x6.5-0.65; Code_JEDEC: MO-152-AC; ComponentLink1Description: Manufacturer Link; ComponentLink1URL: http://sg.renesas.com/fmwk.jsp?cnt=r8c_family_landing.jsp&fp=/products/mpumcu/r8c_family/; ComponentLink2Description: Datasheet; ComponentLink2URL: http://documentation.renesas.com/eng/products/mpumcu/rej03b0124_r8c1819ds.pdf; ComponentLink3Description: Packaging Specification; ComponentLink3URL: http://sg.renesas.com/media/products/common_info/package/pdf/ic/code/plsp0020jb_a.pdf
footprint PLSP0020JB-A_N (SOP, 20-Leads, Body 6.5x4.4mm, Pitch 0.65mm, IPC Medium Density)
footprint PLSP0020JB-A_L (SOP, 20-Leads, Body 6.5x4.4mm, Pitch 0.65mm, IPC High Density)
footprint PLSP0020JB-A_M (SOP, 20-Leads, Body 6.5x4.4mm, Pitch 0.65mm, IPC Low Density)
pins: 1 P3_5/CMP1_2 (io), 2 P3_7/~{CNTR0}/TXD1 (io), 3 ~{RESET} (in), 4 XOUT/P4_7, 5 VSS/AVSS (power), 6 XIN/P4_6 (in), 7 VCC/AVCC (power), 8 MODE (in), 9 P4_5/~{INT0}/RXD1 (io), 10 P1_7/CNTR00/~{INT10} (io), 11 P1_6/CLK0 (io), 12 P1_5/RXD0/CNTR01/~{INT11} (io), 13 P1_4/TXD0 (io), 14 P1_3/~{KI3}/AN11/TZOUT (io), 15 P1_2/~{KI2}/AN10/CMP0_2 (io), 16 P4_2/VREF (io), 17 P1_1/~{KI1}/AN9/CMP0_1 (io), 18 P1_0/~{KI0}/AN8/CMP0_0 (io), 19 P3_3/TCIN/~{INT3}/CMP1_0 (io), 20 P3_4/CMP1_1 (io)

## R5F21181SP
designator U?
R8C/18 Group Single Chip 16-Bit CMOS MCU, 4K ROM, Standard Version; Published: 30-Oct-2009; DatasheetVersion: Rev.1.40, Apr-2006; PackageVersion: Sep-2005; PackageReference: PLSP0020JB-A; Publisher: Altium Limited; PackageDescription: 20-Pin Plastic Low Profile Shrink SOP, 6.5 x 4.4 x 1.15 mm Body, 0.65 mm Pitch; Code_JEITA: P-LSSOP20-4.4x6.5-0.65; Code_JEDEC: MO-152-AC; ComponentLink1Description: Manufacturer Link; ComponentLink1URL: http://sg.renesas.com/fmwk.jsp?cnt=r8c_family_landing.jsp&fp=/products/mpumcu/r8c_family/; ComponentLink2Description: Datasheet; ComponentLink2URL: http://documentation.renesas.com/eng/products/mpumcu/rej03b0124_r8c1819ds.pdf; ComponentLink3Description: Packaging Specification; ComponentLink3URL: http://sg.renesas.com/media/products/common_info/package/pdf/ic/code/plsp0020jb_a.pdf
footprint PLSP0020JB-A_N (SOP, 20-Leads, Body 6.5x4.4mm, Pitch 0.65mm, IPC Medium Density)
footprint PLSP0020JB-A_L (SOP, 20-Leads, Body 6.5x4.4mm, Pitch 0.65mm, IPC High Density)
footprint PLSP0020JB-A_M (SOP, 20-Leads, Body 6.5x4.4mm, Pitch 0.65mm, IPC Low Density)
pins: 1 P3_5/CMP1_2 (io), 2 P3_7/~{CNTR0}/TXD1 (io), 3 ~{RESET} (in), 4 XOUT/P4_7, 5 VSS/AVSS (power), 6 XIN/P4_6 (in), 7 VCC/AVCC (power), 8 MODE (in), 9 P4_5/~{INT0}/RXD1 (io), 10 P1_7/CNTR00/~{INT10} (io), 11 P1_6/CLK0 (io), 12 P1_5/RXD0/CNTR01/~{INT11} (io), 13 P1_4/TXD0 (io), 14 P1_3/~{KI3}/AN11/TZOUT (io), 15 P1_2/~{KI2}/AN10/CMP0_2 (io), 16 P4_2/VREF (io), 17 P1_1/~{KI1}/AN9/CMP0_1 (io), 18 P1_0/~{KI0}/AN8/CMP0_0 (io), 19 P3_3/TCIN/~{INT3}/CMP1_0 (io), 20 P3_4/CMP1_1 (io)

## R5F21182DD
designator U?
R8C/18 Group Single Chip 16-Bit CMOS MCU, 8K ROM, Standard Version; Published: 30-Oct-2009; DatasheetVersion: Rev.1.40, Apr-2006; PackageVersion: Sep-2005; PackageReference: PRDP0020BA-A; Publisher: Altium Limited; PackageDescription: 20-Pin Plastic Shrink DIP, 19 x 6.3 mm Body, 7.62 mm Row Spacing, 1.778 mm Pitch; Code_JEITA: P-SDIP20-6.3x19-1.78; ComponentLink1Description: Manufacturer Link; ComponentLink1URL: http://sg.renesas.com/fmwk.jsp?cnt=r8c_family_landing.jsp&fp=/products/mpumcu/r8c_family/; ComponentLink2Description: Datasheet; ComponentLink2URL: http://documentation.renesas.com/eng/products/mpumcu/rej03b0124_r8c1819ds.pdf; ComponentLink3Description: Packaging Specification; ComponentLink3URL: http://sg.renesas.com/media/products/common_info/package/pdf/ic/code/prdp0020ba_a.pdf
footprint PRDP0020BA-A (DIP, 20-Leads, Row Spacing 7.62mm, Pitch 1.778mm, Body 19x6.3mm)
pins: 1 P3_5/CMP1_2 (io), 2 P3_7/~{CNTR0}/TXD1 (io), 3 ~{RESET} (in), 4 XOUT/P4_7, 5 VSS/AVSS (power), 6 XIN/P4_6 (in), 7 VCC/AVCC (power), 8 MODE (in), 9 P4_5/~{INT0}/RXD1 (io), 10 P1_7/CNTR00/~{INT10} (io), 11 P1_6/CLK0 (io), 12 P1_5/RXD0/CNTR01/~{INT11} (io), 13 P1_4/TXD0 (io), 14 P1_3/~{KI3}/AN11/TZOUT (io), 15 P1_2/~{KI2}/AN10/CMP0_2 (io), 16 P4_2/VREF (io), 17 P1_1/~{KI1}/AN9/CMP0_1 (io), 18 P1_0/~{KI0}/AN8/CMP0_0 (io), 19 P3_3/TCIN/~{INT3}/CMP1_0 (io), 20 P3_4/CMP1_1 (io)